# Altium schematic symbol library YL-LPC4350-CORE-V1.0 _Library.SchLib: 156 symbols (part 3 of 10)
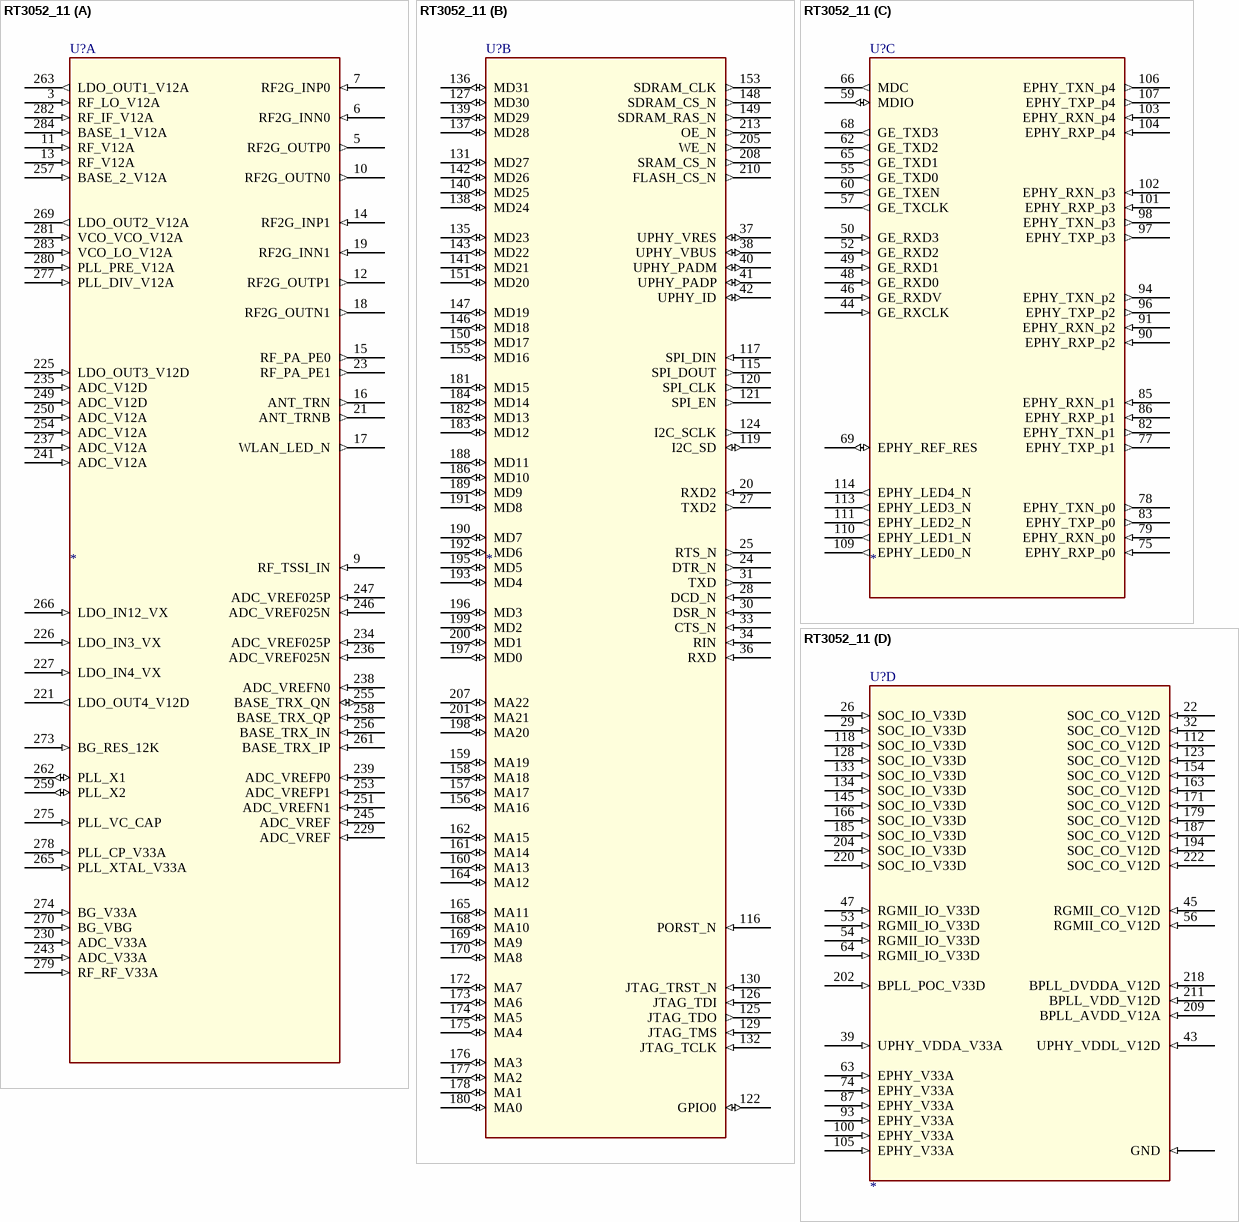
[diagram p152: symbol RT3052_11]

## RT3052_11
designator U?
Altium-Right: 180; Altium-Bottom: 670; Altium-Right1: 160; Altium-Bottom1: 720; Altium-Right2: 170; Altium-Bottom2: 360; Altium-Right3: 200; Altium-Bottom3: 330
footprint QFN285
part A pins: 3 RF_LO_V12A (in), 5 RF2G_OUTP0 (out), 6 RF2G_INN0 (in), 7 RF2G_INP0 (in), 9 RF_TSSI_IN (in), 10 RF2G_OUTN0 (out), 11 RF_V12A (in), 12 RF2G_OUTP1 (out), 13 RF_V12A (in), 14 RF2G_INP1 (in), 15 RF_PA_PE0 (out), 16 ANT_TRN (out), 17 WLAN_LED_N (out), 18 RF2G_OUTN1 (out), 19 RF2G_INN1 (in), 21 ANT_TRNB (out), 23 RF_PA_PE1 (out), 221 LDO_OUT4_V12D (out), 225 LDO_OUT3_V12D (in), 226 LDO_IN3_VX (in), 227 LDO_IN4_VX (in), 229 ADC_VREF (in), 230 ADC_V33A (in), 234 ADC_VREF025P (in), 235 ADC_V12D (in), 236 ADC_VREF025N (in), 237 ADC_V12A (in), 238 ADC_VREFN0 (in), 239 ADC_VREFP0 (in), 241 ADC_V12A (in), 243 ADC_V33A (in), 245 ADC_VREF (in), 246 ADC_VREF025N (in), 247 ADC_VREF025P (in), 249 ADC_V12D (in), 250 ADC_V12A (in), 251 ADC_VREFN1 (in), 253 ADC_VREFP1 (in), 254 ADC_V12A (in), 255 BASE_TRX_QN (io), 256 BASE_TRX_IN (in), 257 BASE_2_V12A (in), 258 BASE_TRX_QP (in), 259 PLL_X2 (io), 261 BASE_TRX_IP (in), 262 PLL_X1 (io), 263 LDO_OUT1_V12A (out), 265 PLL_XTAL_V33A (in), 266 LDO_IN12_VX (in), 269 LDO_OUT2_V12A (out), 270 BG_VBG (in), 273 BG_RES_12K (in), 274 BG_V33A (in), 275 PLL_VC_CAP (in), 277 PLL_DIV_V12A (in), 278 PLL_CP_V33A (in), 279 RF_RF_V33A (in), 280 PLL_PRE_V12A (in), 281 VCO_VCO_V12A (in), 282 RF_IF_V12A (in), 283 VCO_LO_V12A (in), 284 BASE_1_V12A (in)
part B pins: 20 RXD2 (in), 24 DTR_N (out), 25 RTS_N (out), 27 TXD2 (out), 28 DCD_N (in), 30 DSR_N (in), 31 TXD (out), 33 CTS_N (in), 34 RIN (in), 36 RXD (in), 37 UPHY_VRES (io), 38 UPHY_VBUS (io), 40 UPHY_PADM (io), 41 UPHY_PADP (io), 42 UPHY_ID (io), 115 SPI_DOUT (out), 116 PORST_N (in), 117 SPI_DIN (in), 119 I2C_SD (io), 120 SPI_CLK (out), 121 SPI_EN (out), 122 GPIO0 (io), 124 I2C_SCLK (out), 125 JTAG_TDO (out), 126 JTAG_TDI (in), 127 MD30 (io), 129 JTAG_TMS (in), 130 JTAG_TRST_N (in), 131 MD27 (io), 132 JTAG_TCLK (in), 135 MD23 (io), 136 MD31 (io), 137 MD28 (io), 138 MD24 (io), 139 MD29 (io), 140 MD25 (io), 141 MD21 (io), 142 MD26 (io), 143 MD22 (io), 146 MD18 (io), 147 MD19 (io), 148 SDRAM_CS_N (out), 149 SDRAM_RAS_N (out), 150 MD17 (io), 151 MD20 (io), 153 SDRAM_CLK (out), 155 MD16 (io), 156 MA16 (io), 157 MA17 (io), 158 MA18 (io), 159 MA19 (io), 160 MA13 (io), 161 MA14 (io), 162 MA15 (io), 164 MA12 (io), 165 MA11 (io), 168 MA10 (io), 169 MA9 (io), 170 MA8 (io), 172 MA7 (io), 173 MA6 (io), 174 MA5 (io), 175 MA4 (io), 176 MA3 (io), 177 MA2 (io), 178 MA1 (io), 180 MA0 (io), 181 MD15 (io), 182 MD13 (io), 183 MD12 (io), 184 MD14 (io), 186 MD10 (io), 188 MD11 (io), 189 MD9 (io), 190 MD7 (io), 191 MD8 (io), 192 MD6 (io), 193 MD4 (io), 195 MD5 (io), 196 MD3 (io), 197 MD0 (io), 198 MA20 (io), 199 MD2 (io), 200 MD1 (io), 201 MA21 (io), 205 WE_N (out), 207 MA22 (io), 208 SRAM_CS_N (out), 210 FLASH_CS_N (out), 213 OE_N (out)
part C pins: 44 GE_RXCLK (in), 46 GE_RXDV (in), 48 GE_RXD0 (in), 49 GE_RXD1 (in), 50 GE_RXD3 (in), 52 GE_RXD2 (in), 55 GE_TXD0 (out), 57 GE_TXCLK (out), 59 MDIO (io), 60 GE_TXEN (out), 62 GE_TXD2 (out), 65 GE_TXD1 (out), 66 MDC (out), 68 GE_TXD3 (out), 69 EPHY_REF_RES (io), 75 EPHY_RXP_p0 (in), 77 EPHY_TXP_p1 (out), 78 EPHY_TXN_p0 (out), 79 EPHY_RXN_p0 (in), 82 EPHY_TXN_p1 (out), 83 EPHY_TXP_p0 (out), 85 EPHY_RXN_p1 (in), 86 EPHY_RXP_p1 (in), 90 EPHY_RXP_p2 (in), 91 EPHY_RXN_p2 (in), 94 EPHY_TXN_p2 (out), 96 EPHY_TXP_p2 (out), 97 EPHY_TXP_p3 (out), 98 EPHY_TXN_p3 (out), 101 EPHY_RXP_p3 (in), 102 EPHY_RXN_p3 (in), 103 EPHY_RXN_p4 (in), 104 EPHY_RXP_p4 (in), 106 EPHY_TXN_p4 (out), 107 EPHY_TXP_p4 (out), 109 EPHY_LED0_N (out), 110 EPHY_LED1_N (out), 111 EPHY_LED2_N (out), 113 EPHY_LED3_N (out), 114 EPHY_LED4_N (out)
part D pins: 22 SOC_CO_V12D (in), 26 SOC_IO_V33D (in), 29 SOC_IO_V33D (in), 32 SOC_CO_V12D (in), 39 UPHY_VDDA_V33A (in), 43 UPHY_VDDL_V12D (in), 45 RGMII_CO_V12D (in), 47 RGMII_IO_V33D (in), 53 RGMII_IO_V33D (in), 54 RGMII_IO_V33D (in), 56 RGMII_CO_V12D (in), 63 EPHY_V33A (in), 64 RGMII_IO_V33D (in), 74 EPHY_V33A (in), 87 EPHY_V33A (in), 93 EPHY_V33A (in), 100 EPHY_V33A (in), 105 EPHY_V33A (in), 112 SOC_CO_V12D (in), 118 SOC_IO_V33D (in), 123 SOC_CO_V12D (in), 128 SOC_IO_V33D (in), 133 SOC_IO_V33D (in), 134 SOC_IO_V33D (in), 145 SOC_IO_V33D (in), 154 SOC_CO_V12D (in), 163 SOC_CO_V12D (in), 166 SOC_IO_V33D (in), 171 SOC_CO_V12D (in), 179 SOC_CO_V12D (in), 185 SOC_IO_V33D (in), 187 SOC_CO_V12D (in), 194 SOC_CO_V12D (in), 202 BPLL_POC_V33D (in), 204 SOC_IO_V33D (in), 209 BPLL_AVDD_V12A (in), 211 BPLL_VDD_V12D (in), 218 BPLL_DVDDA_V12D (in), 220 SOC_IO_V33D (in), 222 SOC_CO_V12D (in), GND (in)

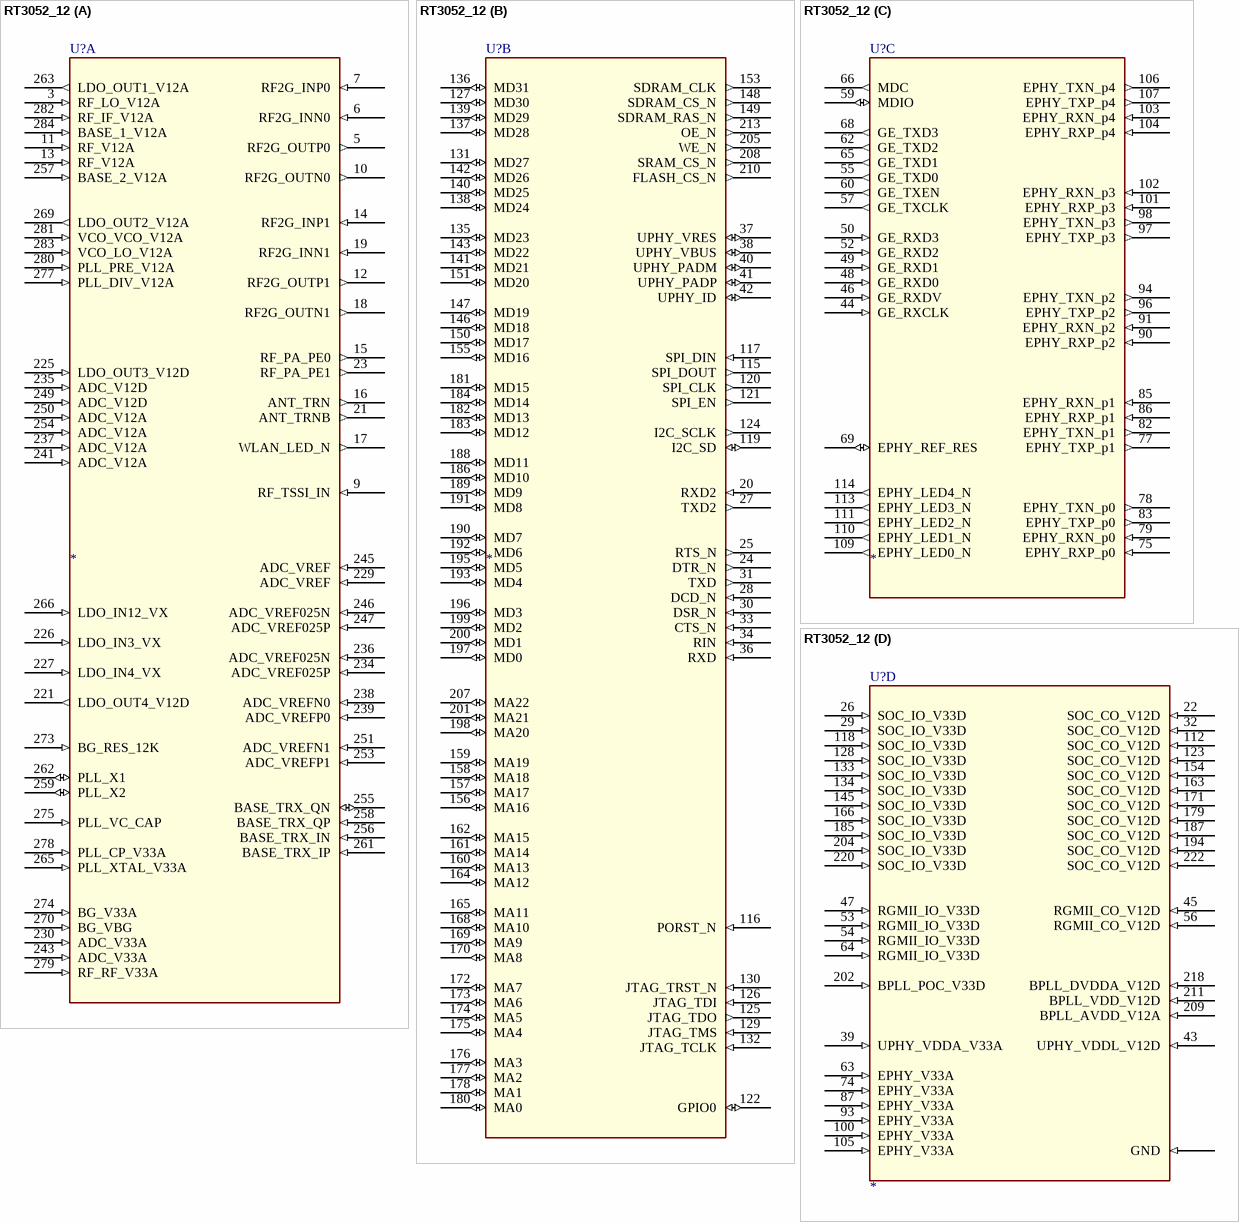
[diagram p20: symbol RT3052_12]

## RT3052_12
designator U?
Altium-Right: 180; Altium-Bottom: 630; Altium-Right1: 160; Altium-Bottom1: 720; Altium-Right2: 170; Altium-Bottom2: 360; Altium-Right3: 200; Altium-Bottom3: 330
footprint QFN285
part A pins: 3 RF_LO_V12A (in), 5 RF2G_OUTP0 (out), 6 RF2G_INN0 (in), 7 RF2G_INP0 (in), 9 RF_TSSI_IN (in), 10 RF2G_OUTN0 (out), 11 RF_V12A (in), 12 RF2G_OUTP1 (out), 13 RF_V12A (in), 14 RF2G_INP1 (in), 15 RF_PA_PE0 (out), 16 ANT_TRN (out), 17 WLAN_LED_N (out), 18 RF2G_OUTN1 (out), 19 RF2G_INN1 (in), 21 ANT_TRNB (out), 23 RF_PA_PE1 (out), 221 LDO_OUT4_V12D (out), 225 LDO_OUT3_V12D (in), 226 LDO_IN3_VX (in), 227 LDO_IN4_VX (in), 229 ADC_VREF (in), 230 ADC_V33A (in), 234 ADC_VREF025P (in), 235 ADC_V12D (in), 236 ADC_VREF025N (in), 237 ADC_V12A (in), 238 ADC_VREFN0 (in), 239 ADC_VREFP0 (in), 241 ADC_V12A (in), 243 ADC_V33A (in), 245 ADC_VREF (in), 246 ADC_VREF025N (in), 247 ADC_VREF025P (in), 249 ADC_V12D (in), 250 ADC_V12A (in), 251 ADC_VREFN1 (in), 253 ADC_VREFP1 (in), 254 ADC_V12A (in), 255 BASE_TRX_QN (io), 256 BASE_TRX_IN (in), 257 BASE_2_V12A (in), 258 BASE_TRX_QP (in), 259 PLL_X2 (io), 261 BASE_TRX_IP (in), 262 PLL_X1 (io), 263 LDO_OUT1_V12A (out), 265 PLL_XTAL_V33A (in), 266 LDO_IN12_VX (in), 269 LDO_OUT2_V12A (out), 270 BG_VBG (in), 273 BG_RES_12K (in), 274 BG_V33A (in), 275 PLL_VC_CAP (in), 277 PLL_DIV_V12A (in), 278 PLL_CP_V33A (in), 279 RF_RF_V33A (in), 280 PLL_PRE_V12A (in), 281 VCO_VCO_V12A (in), 282 RF_IF_V12A (in), 283 VCO_LO_V12A (in), 284 BASE_1_V12A (in)
part B pins: 20 RXD2 (in), 24 DTR_N (out), 25 RTS_N (out), 27 TXD2 (out), 28 DCD_N (in), 30 DSR_N (in), 31 TXD (out), 33 CTS_N (in), 34 RIN (in), 36 RXD (in), 37 UPHY_VRES (io), 38 UPHY_VBUS (io), 40 UPHY_PADM (io), 41 UPHY_PADP (io), 42 UPHY_ID (io), 115 SPI_DOUT (out), 116 PORST_N (in), 117 SPI_DIN (in), 119 I2C_SD (io), 120 SPI_CLK (out), 121 SPI_EN (out), 122 GPIO0 (io), 124 I2C_SCLK (out), 125 JTAG_TDO (out), 126 JTAG_TDI (in), 127 MD30 (io), 129 JTAG_TMS (in), 130 JTAG_TRST_N (in), 131 MD27 (io), 132 JTAG_TCLK (in), 135 MD23 (io), 136 MD31 (io), 137 MD28 (io), 138 MD24 (io), 139 MD29 (io), 140 MD25 (io), 141 MD21 (io), 142 MD26 (io), 143 MD22 (io), 146 MD18 (io), 147 MD19 (io), 148 SDRAM_CS_N (out), 149 SDRAM_RAS_N (out), 150 MD17 (io), 151 MD20 (io), 153 SDRAM_CLK (out), 155 MD16 (io), 156 MA16 (io), 157 MA17 (io), 158 MA18 (io), 159 MA19 (io), 160 MA13 (io), 161 MA14 (io), 162 MA15 (io), 164 MA12 (io), 165 MA11 (io), 168 MA10 (io), 169 MA9 (io), 170 MA8 (io), 172 MA7 (io), 173 MA6 (io), 174 MA5 (io), 175 MA4 (io), 176 MA3 (io), 177 MA2 (io), 178 MA1 (io), 180 MA0 (io), 181 MD15 (io), 182 MD13 (io), 183 MD12 (io), 184 MD14 (io), 186 MD10 (io), 188 MD11 (io), 189 MD9 (io), 190 MD7 (io), 191 MD8 (io), 192 MD6 (io), 193 MD4 (io), 195 MD5 (io), 196 MD3 (io), 197 MD0 (io), 198 MA20 (io), 199 MD2 (io), 200 MD1 (io), 201 MA21 (io), 205 WE_N (out), 207 MA22 (io), 208 SRAM_CS_N (out), 210 FLASH_CS_N (out), 213 OE_N (out)
part C pins: 44 GE_RXCLK (in), 46 GE_RXDV (in), 48 GE_RXD0 (in), 49 GE_RXD1 (in), 50 GE_RXD3 (in), 52 GE_RXD2 (in), 55 GE_TXD0 (out), 57 GE_TXCLK (out), 59 MDIO (io), 60 GE_TXEN (out), 62 GE_TXD2 (out), 65 GE_TXD1 (out), 66 MDC (out), 68 GE_TXD3 (out), 69 EPHY_REF_RES (io), 75 EPHY_RXP_p0 (in), 77 EPHY_TXP_p1 (out), 78 EPHY_TXN_p0 (out), 79 EPHY_RXN_p0 (in), 82 EPHY_TXN_p1 (out), 83 EPHY_TXP_p0 (out), 85 EPHY_RXN_p1 (in), 86 EPHY_RXP_p1 (in), 90 EPHY_RXP_p2 (in), 91 EPHY_RXN_p2 (in), 94 EPHY_TXN_p2 (out), 96 EPHY_TXP_p2 (out), 97 EPHY_TXP_p3 (out), 98 EPHY_TXN_p3 (out), 101 EPHY_RXP_p3 (in), 102 EPHY_RXN_p3 (in), 103 EPHY_RXN_p4 (in), 104 EPHY_RXP_p4 (in), 106 EPHY_TXN_p4 (out), 107 EPHY_TXP_p4 (out), 109 EPHY_LED0_N (out), 110 EPHY_LED1_N (out), 111 EPHY_LED2_N (out), 113 EPHY_LED3_N (out), 114 EPHY_LED4_N (out)
part D pins: 22 SOC_CO_V12D (in), 26 SOC_IO_V33D (in), 29 SOC_IO_V33D (in), 32 SOC_CO_V12D (in), 39 UPHY_VDDA_V33A (in), 43 UPHY_VDDL_V12D (in), 45 RGMII_CO_V12D (in), 47 RGMII_IO_V33D (in), 53 RGMII_IO_V33D (in), 54 RGMII_IO_V33D (in), 56 RGMII_CO_V12D (in), 63 EPHY_V33A (in), 64 RGMII_IO_V33D (in), 74 EPHY_V33A (in), 87 EPHY_V33A (in), 93 EPHY_V33A (in), 100 EPHY_V33A (in), 105 EPHY_V33A (in), 112 SOC_CO_V12D (in), 118 SOC_IO_V33D (in), 123 SOC_CO_V12D (in), 128 SOC_IO_V33D (in), 133 SOC_IO_V33D (in), 134 SOC_IO_V33D (in), 145 SOC_IO_V33D (in), 154 SOC_CO_V12D (in), 163 SOC_CO_V12D (in), 166 SOC_IO_V33D (in), 171 SOC_CO_V12D (in), 179 SOC_CO_V12D (in), 185 SOC_IO_V33D (in), 187 SOC_CO_V12D (in), 194 SOC_CO_V12D (in), 202 BPLL_POC_V33D (in), 204 SOC_IO_V33D (in), 209 BPLL_AVDD_V12A (in), 211 BPLL_VDD_V12D (in), 218 BPLL_DVDDA_V12D (in), 220 SOC_IO_V33D (in), 222 SOC_CO_V12D (in), GND (in)

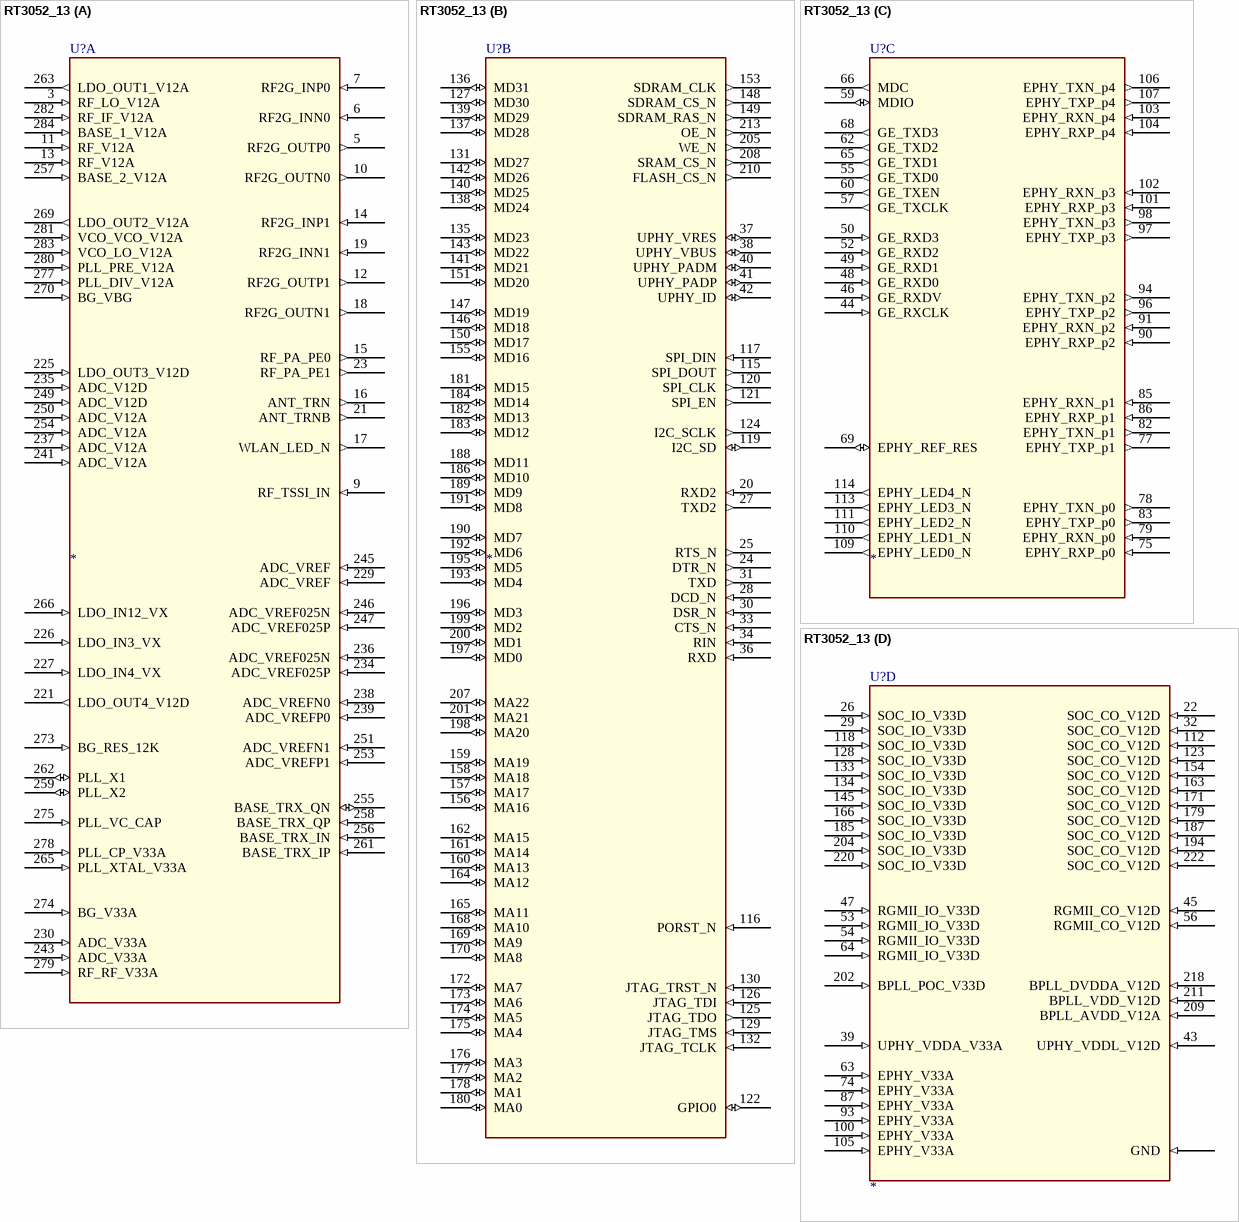
[diagram p21: symbol RT3052_13]

## RT3052_13
designator U?
Altium-Right: 180; Altium-Bottom: 630; Altium-Right1: 160; Altium-Bottom1: 720; Altium-Right2: 170; Altium-Bottom2: 360; Altium-Right3: 200; Altium-Bottom3: 330
footprint QFN285
part A pins: 3 RF_LO_V12A (in), 5 RF2G_OUTP0 (out), 6 RF2G_INN0 (in), 7 RF2G_INP0 (in), 9 RF_TSSI_IN (in), 10 RF2G_OUTN0 (out), 11 RF_V12A (in), 12 RF2G_OUTP1 (out), 13 RF_V12A (in), 14 RF2G_INP1 (in), 15 RF_PA_PE0 (out), 16 ANT_TRN (out), 17 WLAN_LED_N (out), 18 RF2G_OUTN1 (out), 19 RF2G_INN1 (in), 21 ANT_TRNB (out), 23 RF_PA_PE1 (out), 221 LDO_OUT4_V12D (out), 225 LDO_OUT3_V12D (in), 226 LDO_IN3_VX (in), 227 LDO_IN4_VX (in), 229 ADC_VREF (in), 230 ADC_V33A (in), 234 ADC_VREF025P (in), 235 ADC_V12D (in), 236 ADC_VREF025N (in), 237 ADC_V12A (in), 238 ADC_VREFN0 (in), 239 ADC_VREFP0 (in), 241 ADC_V12A (in), 243 ADC_V33A (in), 245 ADC_VREF (in), 246 ADC_VREF025N (in), 247 ADC_VREF025P (in), 249 ADC_V12D (in), 250 ADC_V12A (in), 251 ADC_VREFN1 (in), 253 ADC_VREFP1 (in), 254 ADC_V12A (in), 255 BASE_TRX_QN (io), 256 BASE_TRX_IN (in), 257 BASE_2_V12A (in), 258 BASE_TRX_QP (in), 259 PLL_X2 (io), 261 BASE_TRX_IP (in), 262 PLL_X1 (io), 263 LDO_OUT1_V12A (out), 265 PLL_XTAL_V33A (in), 266 LDO_IN12_VX (in), 269 LDO_OUT2_V12A (out), 270 BG_VBG (in), 273 BG_RES_12K (in), 274 BG_V33A (in), 275 PLL_VC_CAP (in), 277 PLL_DIV_V12A (in), 278 PLL_CP_V33A (in), 279 RF_RF_V33A (in), 280 PLL_PRE_V12A (in), 281 VCO_VCO_V12A (in), 282 RF_IF_V12A (in), 283 VCO_LO_V12A (in), 284 BASE_1_V12A (in)
part B pins: 20 RXD2 (in), 24 DTR_N (out), 25 RTS_N (out), 27 TXD2 (out), 28 DCD_N (in), 30 DSR_N (in), 31 TXD (out), 33 CTS_N (in), 34 RIN (in), 36 RXD (in), 37 UPHY_VRES (io), 38 UPHY_VBUS (io), 40 UPHY_PADM (io), 41 UPHY_PADP (io), 42 UPHY_ID (io), 115 SPI_DOUT (out), 116 PORST_N (in), 117 SPI_DIN (in), 119 I2C_SD (io), 120 SPI_CLK (out), 121 SPI_EN (out), 122 GPIO0 (io), 124 I2C_SCLK (out), 125 JTAG_TDO (out), 126 JTAG_TDI (in), 127 MD30 (io), 129 JTAG_TMS (in), 130 JTAG_TRST_N (in), 131 MD27 (io), 132 JTAG_TCLK (in), 135 MD23 (io), 136 MD31 (io), 137 MD28 (io), 138 MD24 (io), 139 MD29 (io), 140 MD25 (io), 141 MD21 (io), 142 MD26 (io), 143 MD22 (io), 146 MD18 (io), 147 MD19 (io), 148 SDRAM_CS_N (out), 149 SDRAM_RAS_N (out), 150 MD17 (io), 151 MD20 (io), 153 SDRAM_CLK (out), 155 MD16 (io), 156 MA16 (io), 157 MA17 (io), 158 MA18 (io), 159 MA19 (io), 160 MA13 (io), 161 MA14 (io), 162 MA15 (io), 164 MA12 (io), 165 MA11 (io), 168 MA10 (io), 169 MA9 (io), 170 MA8 (io), 172 MA7 (io), 173 MA6 (io), 174 MA5 (io), 175 MA4 (io), 176 MA3 (io), 177 MA2 (io), 178 MA1 (io), 180 MA0 (io), 181 MD15 (io), 182 MD13 (io), 183 MD12 (io), 184 MD14 (io), 186 MD10 (io), 188 MD11 (io), 189 MD9 (io), 190 MD7 (io), 191 MD8 (io), 192 MD6 (io), 193 MD4 (io), 195 MD5 (io), 196 MD3 (io), 197 MD0 (io), 198 MA20 (io), 199 MD2 (io), 200 MD1 (io), 201 MA21 (io), 205 WE_N (out), 207 MA22 (io), 208 SRAM_CS_N (out), 210 FLASH_CS_N (out), 213 OE_N (out)
part C pins: 44 GE_RXCLK (in), 46 GE_RXDV (in), 48 GE_RXD0 (in), 49 GE_RXD1 (in), 50 GE_RXD3 (in), 52 GE_RXD2 (in), 55 GE_TXD0 (out), 57 GE_TXCLK (out), 59 MDIO (io), 60 GE_TXEN (out), 62 GE_TXD2 (out), 65 GE_TXD1 (out), 66 MDC (out), 68 GE_TXD3 (out), 69 EPHY_REF_RES (io), 75 EPHY_RXP_p0 (in), 77 EPHY_TXP_p1 (out), 78 EPHY_TXN_p0 (out), 79 EPHY_RXN_p0 (in), 82 EPHY_TXN_p1 (out), 83 EPHY_TXP_p0 (out), 85 EPHY_RXN_p1 (in), 86 EPHY_RXP_p1 (in), 90 EPHY_RXP_p2 (in), 91 EPHY_RXN_p2 (in), 94 EPHY_TXN_p2 (out), 96 EPHY_TXP_p2 (out), 97 EPHY_TXP_p3 (out), 98 EPHY_TXN_p3 (out), 101 EPHY_RXP_p3 (in), 102 EPHY_RXN_p3 (in), 103 EPHY_RXN_p4 (in), 104 EPHY_RXP_p4 (in), 106 EPHY_TXN_p4 (out), 107 EPHY_TXP_p4 (out), 109 EPHY_LED0_N (out), 110 EPHY_LED1_N (out), 111 EPHY_LED2_N (out), 113 EPHY_LED3_N (out), 114 EPHY_LED4_N (out)
part D pins: 22 SOC_CO_V12D (in), 26 SOC_IO_V33D (in), 29 SOC_IO_V33D (in), 32 SOC_CO_V12D (in), 39 UPHY_VDDA_V33A (in), 43 UPHY_VDDL_V12D (in), 45 RGMII_CO_V12D (in), 47 RGMII_IO_V33D (in), 53 RGMII_IO_V33D (in), 54 RGMII_IO_V33D (in), 56 RGMII_CO_V12D (in), 63 EPHY_V33A (in), 64 RGMII_IO_V33D (in), 74 EPHY_V33A (in), 87 EPHY_V33A (in), 93 EPHY_V33A (in), 100 EPHY_V33A (in), 105 EPHY_V33A (in), 112 SOC_CO_V12D (in), 118 SOC_IO_V33D (in), 123 SOC_CO_V12D (in), 128 SOC_IO_V33D (in), 133 SOC_IO_V33D (in), 134 SOC_IO_V33D (in), 145 SOC_IO_V33D (in), 154 SOC_CO_V12D (in), 163 SOC_CO_V12D (in), 166 SOC_IO_V33D (in), 171 SOC_CO_V12D (in), 179 SOC_CO_V12D (in), 185 SOC_IO_V33D (in), 187 SOC_CO_V12D (in), 194 SOC_CO_V12D (in), 202 BPLL_POC_V33D (in), 204 SOC_IO_V33D (in), 209 BPLL_AVDD_V12A (in), 211 BPLL_VDD_V12D (in), 218 BPLL_DVDDA_V12D (in), 220 SOC_IO_V33D (in), 222 SOC_CO_V12D (in), GND (in)

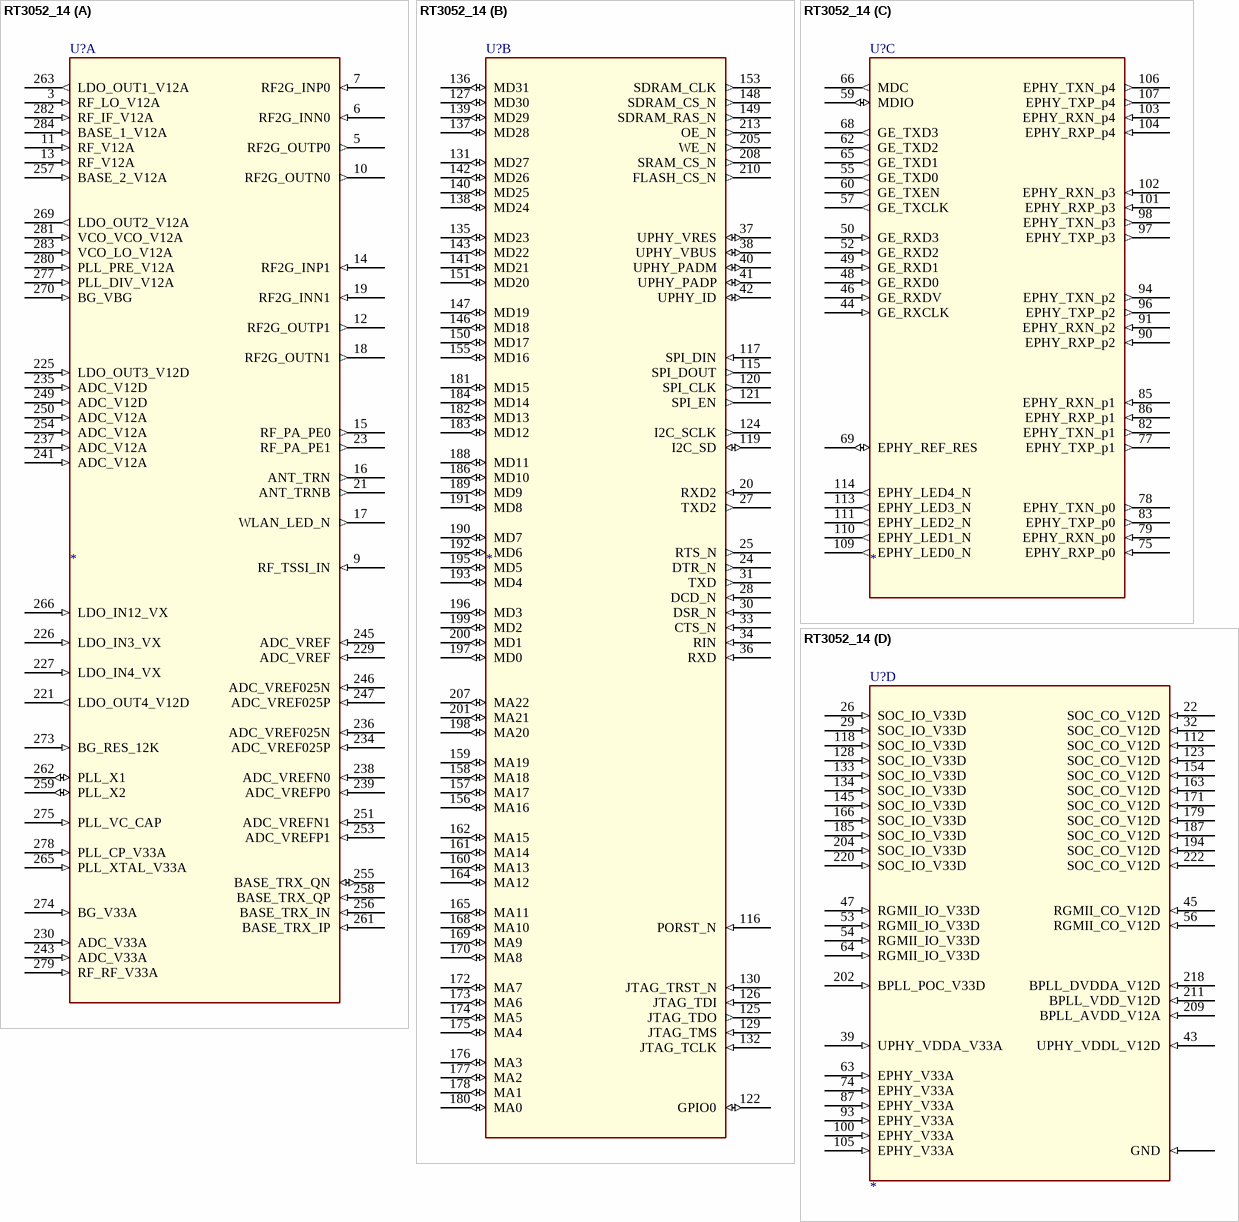
[diagram p22: symbol RT3052_14]

## RT3052_14
designator U?
Altium-Right: 180; Altium-Bottom: 630; Altium-Right1: 160; Altium-Bottom1: 720; Altium-Right2: 170; Altium-Bottom2: 360; Altium-Right3: 200; Altium-Bottom3: 330
footprint QFN285
part A pins: 3 RF_LO_V12A (in), 5 RF2G_OUTP0 (out), 6 RF2G_INN0 (in), 7 RF2G_INP0 (in), 9 RF_TSSI_IN (in), 10 RF2G_OUTN0 (out), 11 RF_V12A (in), 12 RF2G_OUTP1 (out), 13 RF_V12A (in), 14 RF2G_INP1 (in), 15 RF_PA_PE0 (out), 16 ANT_TRN (out), 17 WLAN_LED_N (out), 18 RF2G_OUTN1 (out), 19 RF2G_INN1 (in), 21 ANT_TRNB (out), 23 RF_PA_PE1 (out), 221 LDO_OUT4_V12D (out), 225 LDO_OUT3_V12D (in), 226 LDO_IN3_VX (in), 227 LDO_IN4_VX (in), 229 ADC_VREF (in), 230 ADC_V33A (in), 234 ADC_VREF025P (in), 235 ADC_V12D (in), 236 ADC_VREF025N (in), 237 ADC_V12A (in), 238 ADC_VREFN0 (in), 239 ADC_VREFP0 (in), 241 ADC_V12A (in), 243 ADC_V33A (in), 245 ADC_VREF (in), 246 ADC_VREF025N (in), 247 ADC_VREF025P (in), 249 ADC_V12D (in), 250 ADC_V12A (in), 251 ADC_VREFN1 (in), 253 ADC_VREFP1 (in), 254 ADC_V12A (in), 255 BASE_TRX_QN (io), 256 BASE_TRX_IN (in), 257 BASE_2_V12A (in), 258 BASE_TRX_QP (in), 259 PLL_X2 (io), 261 BASE_TRX_IP (in), 262 PLL_X1 (io), 263 LDO_OUT1_V12A (out), 265 PLL_XTAL_V33A (in), 266 LDO_IN12_VX (in), 269 LDO_OUT2_V12A (out), 270 BG_VBG (in), 273 BG_RES_12K (in), 274 BG_V33A (in), 275 PLL_VC_CAP (in), 277 PLL_DIV_V12A (in), 278 PLL_CP_V33A (in), 279 RF_RF_V33A (in), 280 PLL_PRE_V12A (in), 281 VCO_VCO_V12A (in), 282 RF_IF_V12A (in), 283 VCO_LO_V12A (in), 284 BASE_1_V12A (in)
part B pins: 20 RXD2 (in), 24 DTR_N (out), 25 RTS_N (out), 27 TXD2 (out), 28 DCD_N (in), 30 DSR_N (in), 31 TXD (out), 33 CTS_N (in), 34 RIN (in), 36 RXD (in), 37 UPHY_VRES (io), 38 UPHY_VBUS (io), 40 UPHY_PADM (io), 41 UPHY_PADP (io), 42 UPHY_ID (io), 115 SPI_DOUT (out), 116 PORST_N (in), 117 SPI_DIN (in), 119 I2C_SD (io), 120 SPI_CLK (out), 121 SPI_EN (out), 122 GPIO0 (io), 124 I2C_SCLK (out), 125 JTAG_TDO (out), 126 JTAG_TDI (in), 127 MD30 (io), 129 JTAG_TMS (in), 130 JTAG_TRST_N (in), 131 MD27 (io), 132 JTAG_TCLK (in), 135 MD23 (io), 136 MD31 (io), 137 MD28 (io), 138 MD24 (io), 139 MD29 (io), 140 MD25 (io), 141 MD21 (io), 142 MD26 (io), 143 MD22 (io), 146 MD18 (io), 147 MD19 (io), 148 SDRAM_CS_N (out), 149 SDRAM_RAS_N (out), 150 MD17 (io), 151 MD20 (io), 153 SDRAM_CLK (out), 155 MD16 (io), 156 MA16 (io), 157 MA17 (io), 158 MA18 (io), 159 MA19 (io), 160 MA13 (io), 161 MA14 (io), 162 MA15 (io), 164 MA12 (io), 165 MA11 (io), 168 MA10 (io), 169 MA9 (io), 170 MA8 (io), 172 MA7 (io), 173 MA6 (io), 174 MA5 (io), 175 MA4 (io), 176 MA3 (io), 177 MA2 (io), 178 MA1 (io), 180 MA0 (io), 181 MD15 (io), 182 MD13 (io), 183 MD12 (io), 184 MD14 (io), 186 MD10 (io), 188 MD11 (io), 189 MD9 (io), 190 MD7 (io), 191 MD8 (io), 192 MD6 (io), 193 MD4 (io), 195 MD5 (io), 196 MD3 (io), 197 MD0 (io), 198 MA20 (io), 199 MD2 (io), 200 MD1 (io), 201 MA21 (io), 205 WE_N (out), 207 MA22 (io), 208 SRAM_CS_N (out), 210 FLASH_CS_N (out), 213 OE_N (out)
part C pins: 44 GE_RXCLK (in), 46 GE_RXDV (in), 48 GE_RXD0 (in), 49 GE_RXD1 (in), 50 GE_RXD3 (in), 52 GE_RXD2 (in), 55 GE_TXD0 (out), 57 GE_TXCLK (out), 59 MDIO (io), 60 GE_TXEN (out), 62 GE_TXD2 (out), 65 GE_TXD1 (out), 66 MDC (out), 68 GE_TXD3 (out), 69 EPHY_REF_RES (io), 75 EPHY_RXP_p0 (in), 77 EPHY_TXP_p1 (out), 78 EPHY_TXN_p0 (out), 79 EPHY_RXN_p0 (in), 82 EPHY_TXN_p1 (out), 83 EPHY_TXP_p0 (out), 85 EPHY_RXN_p1 (in), 86 EPHY_RXP_p1 (in), 90 EPHY_RXP_p2 (in), 91 EPHY_RXN_p2 (in), 94 EPHY_TXN_p2 (out), 96 EPHY_TXP_p2 (out), 97 EPHY_TXP_p3 (out), 98 EPHY_TXN_p3 (out), 101 EPHY_RXP_p3 (in), 102 EPHY_RXN_p3 (in), 103 EPHY_RXN_p4 (in), 104 EPHY_RXP_p4 (in), 106 EPHY_TXN_p4 (out), 107 EPHY_TXP_p4 (out), 109 EPHY_LED0_N (out), 110 EPHY_LED1_N (out), 111 EPHY_LED2_N (out), 113 EPHY_LED3_N (out), 114 EPHY_LED4_N (out)
part D pins: 22 SOC_CO_V12D (in), 26 SOC_IO_V33D (in), 29 SOC_IO_V33D (in), 32 SOC_CO_V12D (in), 39 UPHY_VDDA_V33A (in), 43 UPHY_VDDL_V12D (in), 45 RGMII_CO_V12D (in), 47 RGMII_IO_V33D (in), 53 RGMII_IO_V33D (in), 54 RGMII_IO_V33D (in), 56 RGMII_CO_V12D (in), 63 EPHY_V33A (in), 64 RGMII_IO_V33D (in), 74 EPHY_V33A (in), 87 EPHY_V33A (in), 93 EPHY_V33A (in), 100 EPHY_V33A (in), 105 EPHY_V33A (in), 112 SOC_CO_V12D (in), 118 SOC_IO_V33D (in), 123 SOC_CO_V12D (in), 128 SOC_IO_V33D (in), 133 SOC_IO_V33D (in), 134 SOC_IO_V33D (in), 145 SOC_IO_V33D (in), 154 SOC_CO_V12D (in), 163 SOC_CO_V12D (in), 166 SOC_IO_V33D (in), 171 SOC_CO_V12D (in), 179 SOC_CO_V12D (in), 185 SOC_IO_V33D (in), 187 SOC_CO_V12D (in), 194 SOC_CO_V12D (in), 202 BPLL_POC_V33D (in), 204 SOC_IO_V33D (in), 209 BPLL_AVDD_V12A (in), 211 BPLL_VDD_V12D (in), 218 BPLL_DVDDA_V12D (in), 220 SOC_IO_V33D (in), 222 SOC_CO_V12D (in), GND (in)

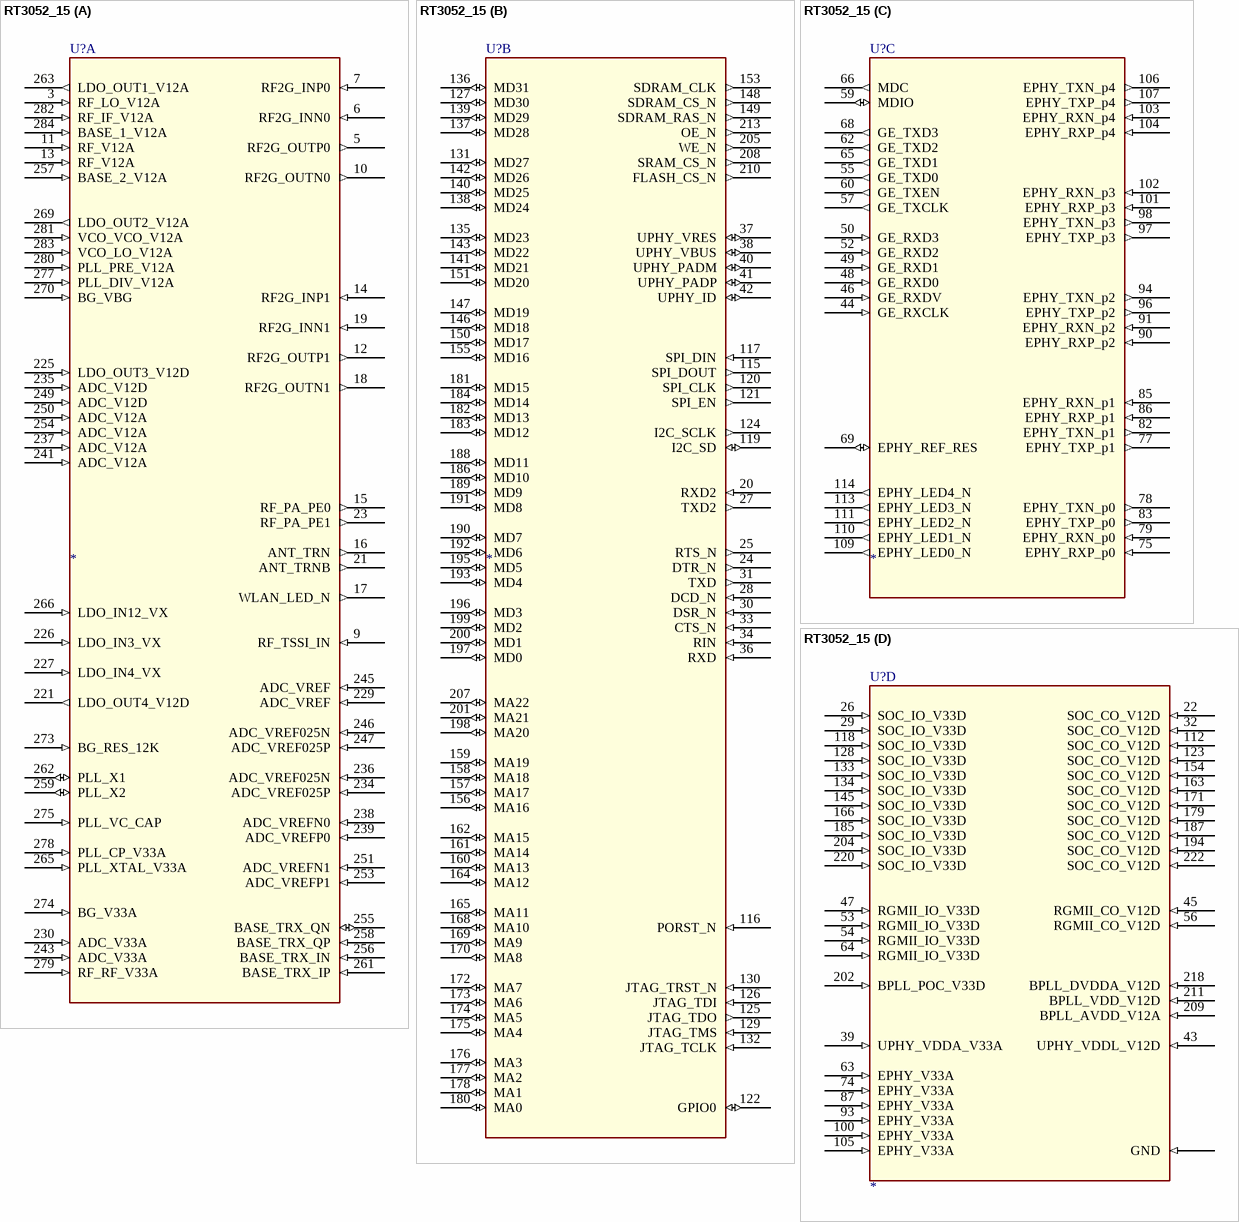
[diagram p23: symbol RT3052_15]

## RT3052_15
designator U?
Altium-Right: 180; Altium-Bottom: 630; Altium-Right1: 160; Altium-Bottom1: 720; Altium-Right2: 170; Altium-Bottom2: 360; Altium-Right3: 200; Altium-Bottom3: 330
footprint QFN285
part A pins: 3 RF_LO_V12A (in), 5 RF2G_OUTP0 (out), 6 RF2G_INN0 (in), 7 RF2G_INP0 (in), 9 RF_TSSI_IN (in), 10 RF2G_OUTN0 (out), 11 RF_V12A (in), 12 RF2G_OUTP1 (out), 13 RF_V12A (in), 14 RF2G_INP1 (in), 15 RF_PA_PE0 (out), 16 ANT_TRN (out), 17 WLAN_LED_N (out), 18 RF2G_OUTN1 (out), 19 RF2G_INN1 (in), 21 ANT_TRNB (out), 23 RF_PA_PE1 (out), 221 LDO_OUT4_V12D (out), 225 LDO_OUT3_V12D (in), 226 LDO_IN3_VX (in), 227 LDO_IN4_VX (in), 229 ADC_VREF (in), 230 ADC_V33A (in), 234 ADC_VREF025P (in), 235 ADC_V12D (in), 236 ADC_VREF025N (in), 237 ADC_V12A (in), 238 ADC_VREFN0 (in), 239 ADC_VREFP0 (in), 241 ADC_V12A (in), 243 ADC_V33A (in), 245 ADC_VREF (in), 246 ADC_VREF025N (in), 247 ADC_VREF025P (in), 249 ADC_V12D (in), 250 ADC_V12A (in), 251 ADC_VREFN1 (in), 253 ADC_VREFP1 (in), 254 ADC_V12A (in), 255 BASE_TRX_QN (io), 256 BASE_TRX_IN (in), 257 BASE_2_V12A (in), 258 BASE_TRX_QP (in), 259 PLL_X2 (io), 261 BASE_TRX_IP (in), 262 PLL_X1 (io), 263 LDO_OUT1_V12A (out), 265 PLL_XTAL_V33A (in), 266 LDO_IN12_VX (in), 269 LDO_OUT2_V12A (out), 270 BG_VBG (in), 273 BG_RES_12K (in), 274 BG_V33A (in), 275 PLL_VC_CAP (in), 277 PLL_DIV_V12A (in), 278 PLL_CP_V33A (in), 279 RF_RF_V33A (in), 280 PLL_PRE_V12A (in), 281 VCO_VCO_V12A (in), 282 RF_IF_V12A (in), 283 VCO_LO_V12A (in), 284 BASE_1_V12A (in)
part B pins: 20 RXD2 (in), 24 DTR_N (out), 25 RTS_N (out), 27 TXD2 (out), 28 DCD_N (in), 30 DSR_N (in), 31 TXD (out), 33 CTS_N (in), 34 RIN (in), 36 RXD (in), 37 UPHY_VRES (io), 38 UPHY_VBUS (io), 40 UPHY_PADM (io), 41 UPHY_PADP (io), 42 UPHY_ID (io), 115 SPI_DOUT (out), 116 PORST_N (in), 117 SPI_DIN (in), 119 I2C_SD (io), 120 SPI_CLK (out), 121 SPI_EN (out), 122 GPIO0 (io), 124 I2C_SCLK (out), 125 JTAG_TDO (out), 126 JTAG_TDI (in), 127 MD30 (io), 129 JTAG_TMS (in), 130 JTAG_TRST_N (in), 131 MD27 (io), 132 JTAG_TCLK (in), 135 MD23 (io), 136 MD31 (io), 137 MD28 (io), 138 MD24 (io), 139 MD29 (io), 140 MD25 (io), 141 MD21 (io), 142 MD26 (io), 143 MD22 (io), 146 MD18 (io), 147 MD19 (io), 148 SDRAM_CS_N (out), 149 SDRAM_RAS_N (out), 150 MD17 (io), 151 MD20 (io), 153 SDRAM_CLK (out), 155 MD16 (io), 156 MA16 (io), 157 MA17 (io), 158 MA18 (io), 159 MA19 (io), 160 MA13 (io), 161 MA14 (io), 162 MA15 (io), 164 MA12 (io), 165 MA11 (io), 168 MA10 (io), 169 MA9 (io), 170 MA8 (io), 172 MA7 (io), 173 MA6 (io), 174 MA5 (io), 175 MA4 (io), 176 MA3 (io), 177 MA2 (io), 178 MA1 (io), 180 MA0 (io), 181 MD15 (io), 182 MD13 (io), 183 MD12 (io), 184 MD14 (io), 186 MD10 (io), 188 MD11 (io), 189 MD9 (io), 190 MD7 (io), 191 MD8 (io), 192 MD6 (io), 193 MD4 (io), 195 MD5 (io), 196 MD3 (io), 197 MD0 (io), 198 MA20 (io), 199 MD2 (io), 200 MD1 (io), 201 MA21 (io), 205 WE_N (out), 207 MA22 (io), 208 SRAM_CS_N (out), 210 FLASH_CS_N (out), 213 OE_N (out)
part C pins: 44 GE_RXCLK (in), 46 GE_RXDV (in), 48 GE_RXD0 (in), 49 GE_RXD1 (in), 50 GE_RXD3 (in), 52 GE_RXD2 (in), 55 GE_TXD0 (out), 57 GE_TXCLK (out), 59 MDIO (io), 60 GE_TXEN (out), 62 GE_TXD2 (out), 65 GE_TXD1 (out), 66 MDC (out), 68 GE_TXD3 (out), 69 EPHY_REF_RES (io), 75 EPHY_RXP_p0 (in), 77 EPHY_TXP_p1 (out), 78 EPHY_TXN_p0 (out), 79 EPHY_RXN_p0 (in), 82 EPHY_TXN_p1 (out), 83 EPHY_TXP_p0 (out), 85 EPHY_RXN_p1 (in), 86 EPHY_RXP_p1 (in), 90 EPHY_RXP_p2 (in), 91 EPHY_RXN_p2 (in), 94 EPHY_TXN_p2 (out), 96 EPHY_TXP_p2 (out), 97 EPHY_TXP_p3 (out), 98 EPHY_TXN_p3 (out), 101 EPHY_RXP_p3 (in), 102 EPHY_RXN_p3 (in), 103 EPHY_RXN_p4 (in), 104 EPHY_RXP_p4 (in), 106 EPHY_TXN_p4 (out), 107 EPHY_TXP_p4 (out), 109 EPHY_LED0_N (out), 110 EPHY_LED1_N (out), 111 EPHY_LED2_N (out), 113 EPHY_LED3_N (out), 114 EPHY_LED4_N (out)
part D pins: 22 SOC_CO_V12D (in), 26 SOC_IO_V33D (in), 29 SOC_IO_V33D (in), 32 SOC_CO_V12D (in), 39 UPHY_VDDA_V33A (in), 43 UPHY_VDDL_V12D (in), 45 RGMII_CO_V12D (in), 47 RGMII_IO_V33D (in), 53 RGMII_IO_V33D (in), 54 RGMII_IO_V33D (in), 56 RGMII_CO_V12D (in), 63 EPHY_V33A (in), 64 RGMII_IO_V33D (in), 74 EPHY_V33A (in), 87 EPHY_V33A (in), 93 EPHY_V33A (in), 100 EPHY_V33A (in), 105 EPHY_V33A (in), 112 SOC_CO_V12D (in), 118 SOC_IO_V33D (in), 123 SOC_CO_V12D (in), 128 SOC_IO_V33D (in), 133 SOC_IO_V33D (in), 134 SOC_IO_V33D (in), 145 SOC_IO_V33D (in), 154 SOC_CO_V12D (in), 163 SOC_CO_V12D (in), 166 SOC_IO_V33D (in), 171 SOC_CO_V12D (in), 179 SOC_CO_V12D (in), 185 SOC_IO_V33D (in), 187 SOC_CO_V12D (in), 194 SOC_CO_V12D (in), 202 BPLL_POC_V33D (in), 204 SOC_IO_V33D (in), 209 BPLL_AVDD_V12A (in), 211 BPLL_VDD_V12D (in), 218 BPLL_DVDDA_V12D (in), 220 SOC_IO_V33D (in), 222 SOC_CO_V12D (in), GND (in)

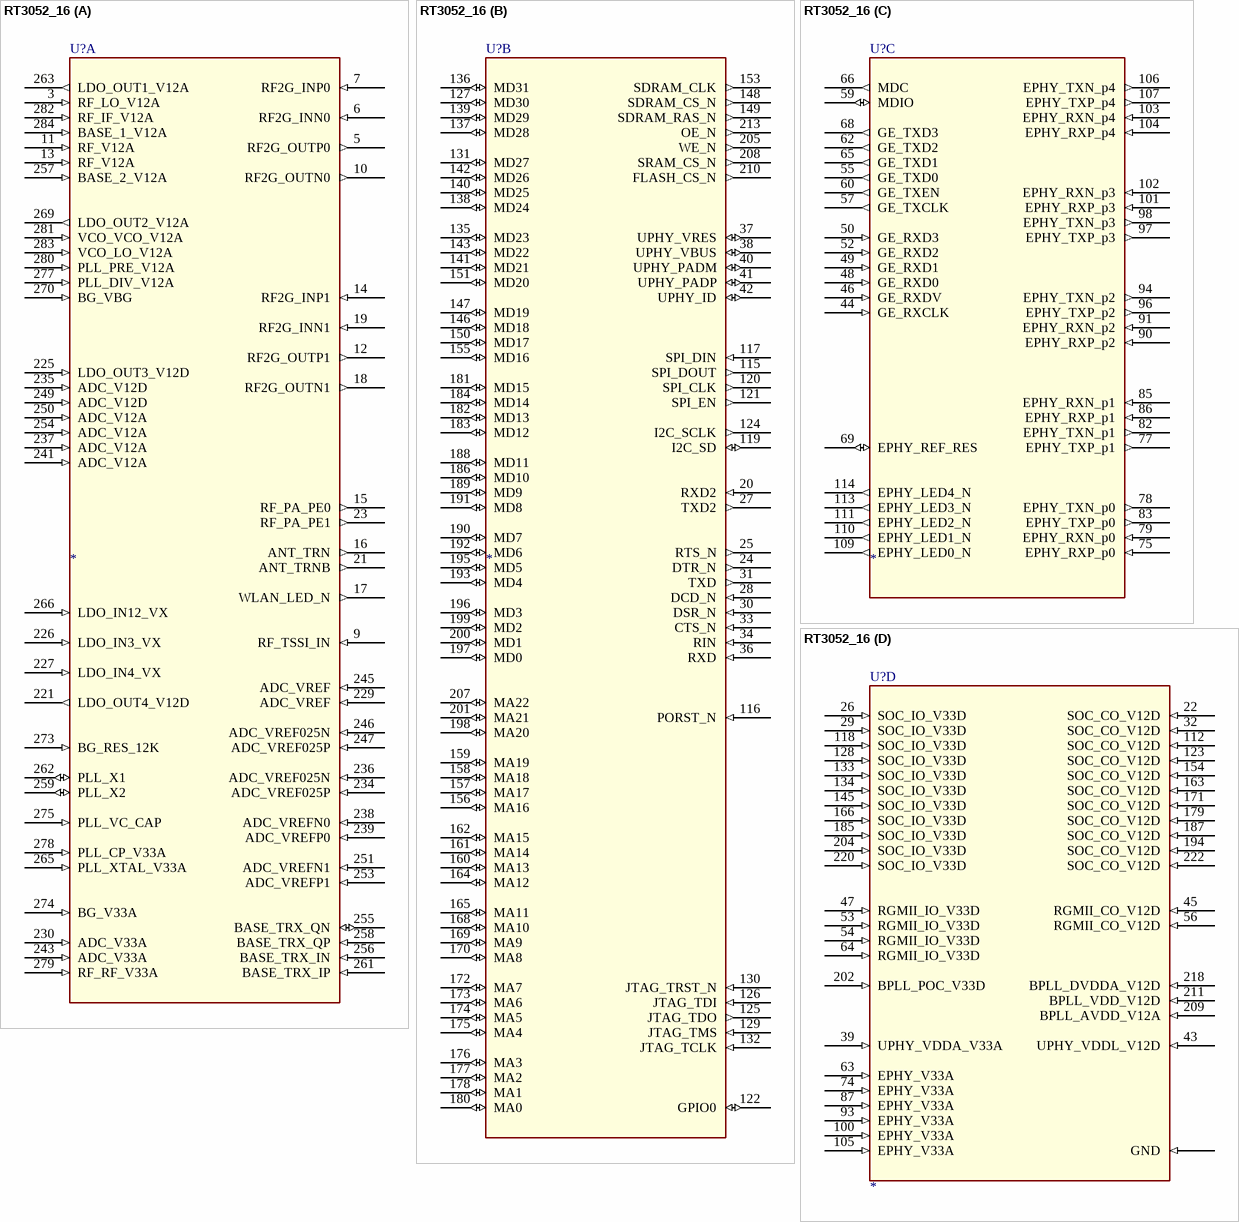
[diagram p24: symbol RT3052_16]

## RT3052_16
designator U?
Altium-Right: 160; Altium-Bottom: 720; Altium-Right1: 170; Altium-Bottom1: 360; Altium-Right2: 200; Altium-Bottom2: 330; Altium-Right3: 180; Altium-Bottom3: 630
footprint QFN285
part A pins: 3 RF_LO_V12A (in), 5 RF2G_OUTP0 (out), 6 RF2G_INN0 (in), 7 RF2G_INP0 (in), 9 RF_TSSI_IN (in), 10 RF2G_OUTN0 (out), 11 RF_V12A (in), 12 RF2G_OUTP1 (out), 13 RF_V12A (in), 14 RF2G_INP1 (in), 15 RF_PA_PE0 (out), 16 ANT_TRN (out), 17 WLAN_LED_N (out), 18 RF2G_OUTN1 (out), 19 RF2G_INN1 (in), 21 ANT_TRNB (out), 23 RF_PA_PE1 (out), 221 LDO_OUT4_V12D (out), 225 LDO_OUT3_V12D (in), 226 LDO_IN3_VX (in), 227 LDO_IN4_VX (in), 229 ADC_VREF (in), 230 ADC_V33A (in), 234 ADC_VREF025P (in), 235 ADC_V12D (in), 236 ADC_VREF025N (in), 237 ADC_V12A (in), 238 ADC_VREFN0 (in), 239 ADC_VREFP0 (in), 241 ADC_V12A (in), 243 ADC_V33A (in), 245 ADC_VREF (in), 246 ADC_VREF025N (in), 247 ADC_VREF025P (in), 249 ADC_V12D (in), 250 ADC_V12A (in), 251 ADC_VREFN1 (in), 253 ADC_VREFP1 (in), 254 ADC_V12A (in), 255 BASE_TRX_QN (io), 256 BASE_TRX_IN (in), 257 BASE_2_V12A (in), 258 BASE_TRX_QP (in), 259 PLL_X2 (io), 261 BASE_TRX_IP (in), 262 PLL_X1 (io), 263 LDO_OUT1_V12A (out), 265 PLL_XTAL_V33A (in), 266 LDO_IN12_VX (in), 269 LDO_OUT2_V12A (out), 270 BG_VBG (in), 273 BG_RES_12K (in), 274 BG_V33A (in), 275 PLL_VC_CAP (in), 277 PLL_DIV_V12A (in), 278 PLL_CP_V33A (in), 279 RF_RF_V33A (in), 280 PLL_PRE_V12A (in), 281 VCO_VCO_V12A (in), 282 RF_IF_V12A (in), 283 VCO_LO_V12A (in), 284 BASE_1_V12A (in)
part B pins: 20 RXD2 (in), 24 DTR_N (out), 25 RTS_N (out), 27 TXD2 (out), 28 DCD_N (in), 30 DSR_N (in), 31 TXD (out), 33 CTS_N (in), 34 RIN (in), 36 RXD (in), 37 UPHY_VRES (io), 38 UPHY_VBUS (io), 40 UPHY_PADM (io), 41 UPHY_PADP (io), 42 UPHY_ID (io), 115 SPI_DOUT (out), 116 PORST_N (in), 117 SPI_DIN (in), 119 I2C_SD (io), 120 SPI_CLK (out), 121 SPI_EN (out), 122 GPIO0 (io), 124 I2C_SCLK (out), 125 JTAG_TDO (out), 126 JTAG_TDI (in), 127 MD30 (io), 129 JTAG_TMS (in), 130 JTAG_TRST_N (in), 131 MD27 (io), 132 JTAG_TCLK (in), 135 MD23 (io), 136 MD31 (io), 137 MD28 (io), 138 MD24 (io), 139 MD29 (io), 140 MD25 (io), 141 MD21 (io), 142 MD26 (io), 143 MD22 (io), 146 MD18 (io), 147 MD19 (io), 148 SDRAM_CS_N (out), 149 SDRAM_RAS_N (out), 150 MD17 (io), 151 MD20 (io), 153 SDRAM_CLK (out), 155 MD16 (io), 156 MA16 (io), 157 MA17 (io), 158 MA18 (io), 159 MA19 (io), 160 MA13 (io), 161 MA14 (io), 162 MA15 (io), 164 MA12 (io), 165 MA11 (io), 168 MA10 (io), 169 MA9 (io), 170 MA8 (io), 172 MA7 (io), 173 MA6 (io), 174 MA5 (io), 175 MA4 (io), 176 MA3 (io), 177 MA2 (io), 178 MA1 (io), 180 MA0 (io), 181 MD15 (io), 182 MD13 (io), 183 MD12 (io), 184 MD14 (io), 186 MD10 (io), 188 MD11 (io), 189 MD9 (io), 190 MD7 (io), 191 MD8 (io), 192 MD6 (io), 193 MD4 (io), 195 MD5 (io), 196 MD3 (io), 197 MD0 (io), 198 MA20 (io), 199 MD2 (io), 200 MD1 (io), 201 MA21 (io), 205 WE_N (out), 207 MA22 (io), 208 SRAM_CS_N (out), 210 FLASH_CS_N (out), 213 OE_N (out)
part C pins: 44 GE_RXCLK (in), 46 GE_RXDV (in), 48 GE_RXD0 (in), 49 GE_RXD1 (in), 50 GE_RXD3 (in), 52 GE_RXD2 (in), 55 GE_TXD0 (out), 57 GE_TXCLK (out), 59 MDIO (io), 60 GE_TXEN (out), 62 GE_TXD2 (out), 65 GE_TXD1 (out), 66 MDC (out), 68 GE_TXD3 (out), 69 EPHY_REF_RES (io), 75 EPHY_RXP_p0 (in), 77 EPHY_TXP_p1 (out), 78 EPHY_TXN_p0 (out), 79 EPHY_RXN_p0 (in), 82 EPHY_TXN_p1 (out), 83 EPHY_TXP_p0 (out), 85 EPHY_RXN_p1 (in), 86 EPHY_RXP_p1 (in), 90 EPHY_RXP_p2 (in), 91 EPHY_RXN_p2 (in), 94 EPHY_TXN_p2 (out), 96 EPHY_TXP_p2 (out), 97 EPHY_TXP_p3 (out), 98 EPHY_TXN_p3 (out), 101 EPHY_RXP_p3 (in), 102 EPHY_RXN_p3 (in), 103 EPHY_RXN_p4 (in), 104 EPHY_RXP_p4 (in), 106 EPHY_TXN_p4 (out), 107 EPHY_TXP_p4 (out), 109 EPHY_LED0_N (out), 110 EPHY_LED1_N (out), 111 EPHY_LED2_N (out), 113 EPHY_LED3_N (out), 114 EPHY_LED4_N (out)
part D pins: 22 SOC_CO_V12D (in), 26 SOC_IO_V33D (in), 29 SOC_IO_V33D (in), 32 SOC_CO_V12D (in), 39 UPHY_VDDA_V33A (in), 43 UPHY_VDDL_V12D (in), 45 RGMII_CO_V12D (in), 47 RGMII_IO_V33D (in), 53 RGMII_IO_V33D (in), 54 RGMII_IO_V33D (in), 56 RGMII_CO_V12D (in), 63 EPHY_V33A (in), 64 RGMII_IO_V33D (in), 74 EPHY_V33A (in), 87 EPHY_V33A (in), 93 EPHY_V33A (in), 100 EPHY_V33A (in), 105 EPHY_V33A (in), 112 SOC_CO_V12D (in), 118 SOC_IO_V33D (in), 123 SOC_CO_V12D (in), 128 SOC_IO_V33D (in), 133 SOC_IO_V33D (in), 134 SOC_IO_V33D (in), 145 SOC_IO_V33D (in), 154 SOC_CO_V12D (in), 163 SOC_CO_V12D (in), 166 SOC_IO_V33D (in), 171 SOC_CO_V12D (in), 179 SOC_CO_V12D (in), 185 SOC_IO_V33D (in), 187 SOC_CO_V12D (in), 194 SOC_CO_V12D (in), 202 BPLL_POC_V33D (in), 204 SOC_IO_V33D (in), 209 BPLL_AVDD_V12A (in), 211 BPLL_VDD_V12D (in), 218 BPLL_DVDDA_V12D (in), 220 SOC_IO_V33D (in), 222 SOC_CO_V12D (in), GND (in)

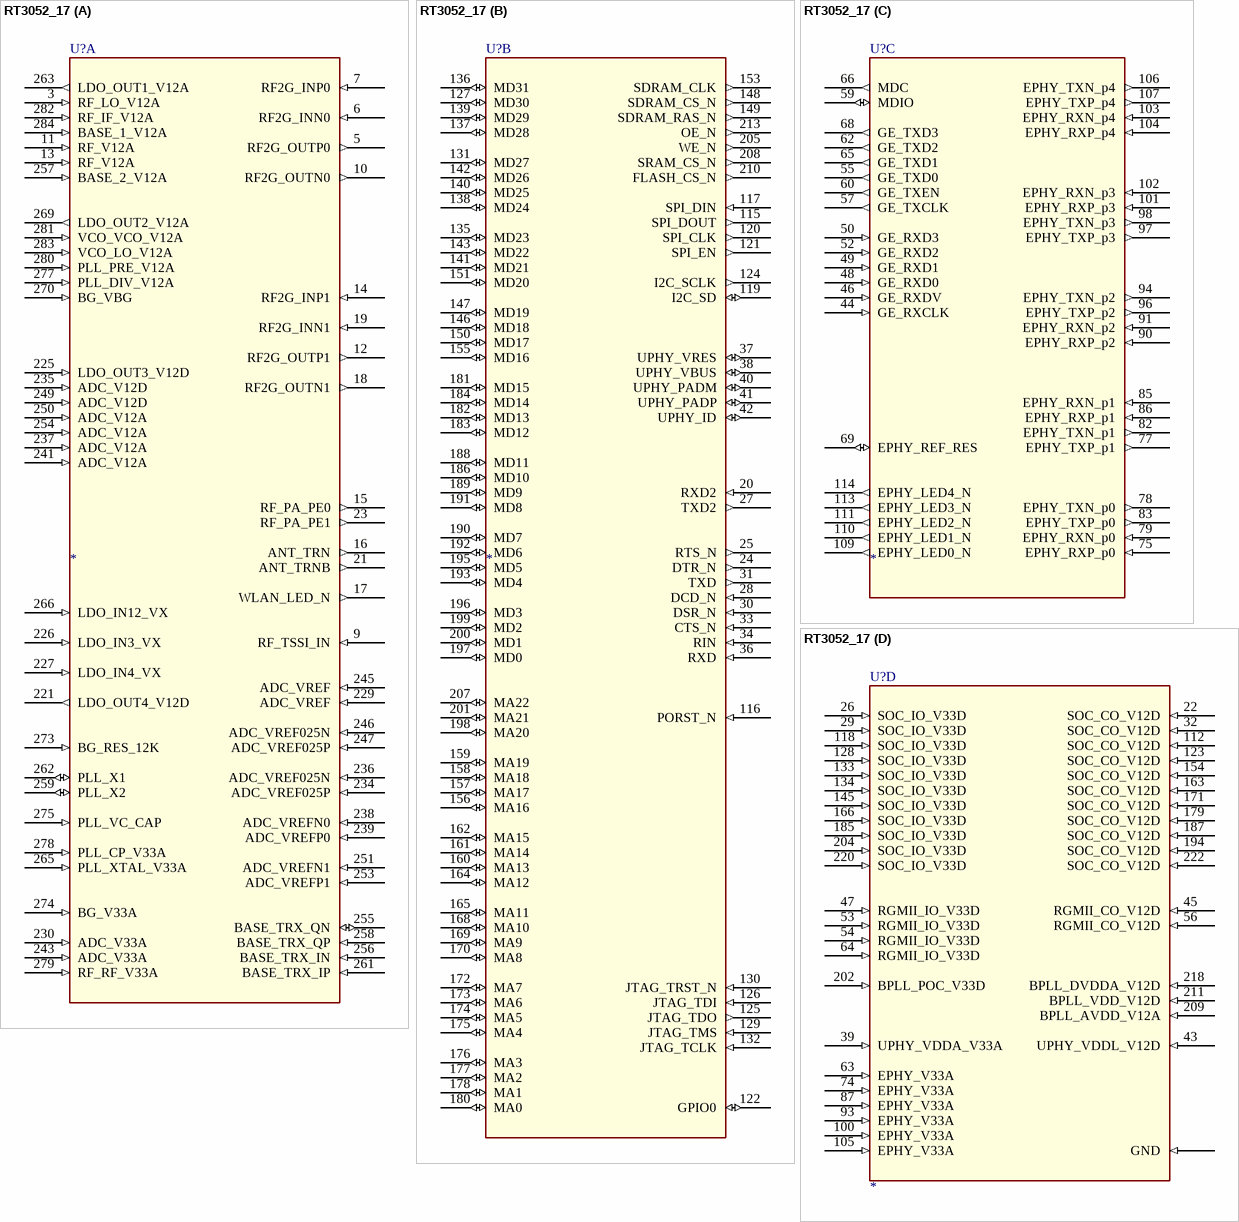
[diagram p25: symbol RT3052_17]

## RT3052_17
designator U?
Altium-Right: 170; Altium-Bottom: 360; Altium-Right1: 200; Altium-Bottom1: 330; Altium-Right2: 180; Altium-Bottom2: 630; Altium-Right3: 160; Altium-Bottom3: 720
footprint QFN285
part A pins: 3 RF_LO_V12A (in), 5 RF2G_OUTP0 (out), 6 RF2G_INN0 (in), 7 RF2G_INP0 (in), 9 RF_TSSI_IN (in), 10 RF2G_OUTN0 (out), 11 RF_V12A (in), 12 RF2G_OUTP1 (out), 13 RF_V12A (in), 14 RF2G_INP1 (in), 15 RF_PA_PE0 (out), 16 ANT_TRN (out), 17 WLAN_LED_N (out), 18 RF2G_OUTN1 (out), 19 RF2G_INN1 (in), 21 ANT_TRNB (out), 23 RF_PA_PE1 (out), 221 LDO_OUT4_V12D (out), 225 LDO_OUT3_V12D (in), 226 LDO_IN3_VX (in), 227 LDO_IN4_VX (in), 229 ADC_VREF (in), 230 ADC_V33A (in), 234 ADC_VREF025P (in), 235 ADC_V12D (in), 236 ADC_VREF025N (in), 237 ADC_V12A (in), 238 ADC_VREFN0 (in), 239 ADC_VREFP0 (in), 241 ADC_V12A (in), 243 ADC_V33A (in), 245 ADC_VREF (in), 246 ADC_VREF025N (in), 247 ADC_VREF025P (in), 249 ADC_V12D (in), 250 ADC_V12A (in), 251 ADC_VREFN1 (in), 253 ADC_VREFP1 (in), 254 ADC_V12A (in), 255 BASE_TRX_QN (io), 256 BASE_TRX_IN (in), 257 BASE_2_V12A (in), 258 BASE_TRX_QP (in), 259 PLL_X2 (io), 261 BASE_TRX_IP (in), 262 PLL_X1 (io), 263 LDO_OUT1_V12A (out), 265 PLL_XTAL_V33A (in), 266 LDO_IN12_VX (in), 269 LDO_OUT2_V12A (out), 270 BG_VBG (in), 273 BG_RES_12K (in), 274 BG_V33A (in), 275 PLL_VC_CAP (in), 277 PLL_DIV_V12A (in), 278 PLL_CP_V33A (in), 279 RF_RF_V33A (in), 280 PLL_PRE_V12A (in), 281 VCO_VCO_V12A (in), 282 RF_IF_V12A (in), 283 VCO_LO_V12A (in), 284 BASE_1_V12A (in)
part B pins: 20 RXD2 (in), 24 DTR_N (out), 25 RTS_N (out), 27 TXD2 (out), 28 DCD_N (in), 30 DSR_N (in), 31 TXD (out), 33 CTS_N (in), 34 RIN (in), 36 RXD (in), 37 UPHY_VRES (io), 38 UPHY_VBUS (io), 40 UPHY_PADM (io), 41 UPHY_PADP (io), 42 UPHY_ID (io), 115 SPI_DOUT (out), 116 PORST_N (in), 117 SPI_DIN (in), 119 I2C_SD (io), 120 SPI_CLK (out), 121 SPI_EN (out), 122 GPIO0 (io), 124 I2C_SCLK (out), 125 JTAG_TDO (out), 126 JTAG_TDI (in), 127 MD30 (io), 129 JTAG_TMS (in), 130 JTAG_TRST_N (in), 131 MD27 (io), 132 JTAG_TCLK (in), 135 MD23 (io), 136 MD31 (io), 137 MD28 (io), 138 MD24 (io), 139 MD29 (io), 140 MD25 (io), 141 MD21 (io), 142 MD26 (io), 143 MD22 (io), 146 MD18 (io), 147 MD19 (io), 148 SDRAM_CS_N (out), 149 SDRAM_RAS_N (out), 150 MD17 (io), 151 MD20 (io), 153 SDRAM_CLK (out), 155 MD16 (io), 156 MA16 (io), 157 MA17 (io), 158 MA18 (io), 159 MA19 (io), 160 MA13 (io), 161 MA14 (io), 162 MA15 (io), 164 MA12 (io), 165 MA11 (io), 168 MA10 (io), 169 MA9 (io), 170 MA8 (io), 172 MA7 (io), 173 MA6 (io), 174 MA5 (io), 175 MA4 (io), 176 MA3 (io), 177 MA2 (io), 178 MA1 (io), 180 MA0 (io), 181 MD15 (io), 182 MD13 (io), 183 MD12 (io), 184 MD14 (io), 186 MD10 (io), 188 MD11 (io), 189 MD9 (io), 190 MD7 (io), 191 MD8 (io), 192 MD6 (io), 193 MD4 (io), 195 MD5 (io), 196 MD3 (io), 197 MD0 (io), 198 MA20 (io), 199 MD2 (io), 200 MD1 (io), 201 MA21 (io), 205 WE_N (out), 207 MA22 (io), 208 SRAM_CS_N (out), 210 FLASH_CS_N (out), 213 OE_N (out)
part C pins: 44 GE_RXCLK (in), 46 GE_RXDV (in), 48 GE_RXD0 (in), 49 GE_RXD1 (in), 50 GE_RXD3 (in), 52 GE_RXD2 (in), 55 GE_TXD0 (out), 57 GE_TXCLK (out), 59 MDIO (io), 60 GE_TXEN (out), 62 GE_TXD2 (out), 65 GE_TXD1 (out), 66 MDC (out), 68 GE_TXD3 (out), 69 EPHY_REF_RES (io), 75 EPHY_RXP_p0 (in), 77 EPHY_TXP_p1 (out), 78 EPHY_TXN_p0 (out), 79 EPHY_RXN_p0 (in), 82 EPHY_TXN_p1 (out), 83 EPHY_TXP_p0 (out), 85 EPHY_RXN_p1 (in), 86 EPHY_RXP_p1 (in), 90 EPHY_RXP_p2 (in), 91 EPHY_RXN_p2 (in), 94 EPHY_TXN_p2 (out), 96 EPHY_TXP_p2 (out), 97 EPHY_TXP_p3 (out), 98 EPHY_TXN_p3 (out), 101 EPHY_RXP_p3 (in), 102 EPHY_RXN_p3 (in), 103 EPHY_RXN_p4 (in), 104 EPHY_RXP_p4 (in), 106 EPHY_TXN_p4 (out), 107 EPHY_TXP_p4 (out), 109 EPHY_LED0_N (out), 110 EPHY_LED1_N (out), 111 EPHY_LED2_N (out), 113 EPHY_LED3_N (out), 114 EPHY_LED4_N (out)
part D pins: 22 SOC_CO_V12D (in), 26 SOC_IO_V33D (in), 29 SOC_IO_V33D (in), 32 SOC_CO_V12D (in), 39 UPHY_VDDA_V33A (in), 43 UPHY_VDDL_V12D (in), 45 RGMII_CO_V12D (in), 47 RGMII_IO_V33D (in), 53 RGMII_IO_V33D (in), 54 RGMII_IO_V33D (in), 56 RGMII_CO_V12D (in), 63 EPHY_V33A (in), 64 RGMII_IO_V33D (in), 74 EPHY_V33A (in), 87 EPHY_V33A (in), 93 EPHY_V33A (in), 100 EPHY_V33A (in), 105 EPHY_V33A (in), 112 SOC_CO_V12D (in), 118 SOC_IO_V33D (in), 123 SOC_CO_V12D (in), 128 SOC_IO_V33D (in), 133 SOC_IO_V33D (in), 134 SOC_IO_V33D (in), 145 SOC_IO_V33D (in), 154 SOC_CO_V12D (in), 163 SOC_CO_V12D (in), 166 SOC_IO_V33D (in), 171 SOC_CO_V12D (in), 179 SOC_CO_V12D (in), 185 SOC_IO_V33D (in), 187 SOC_CO_V12D (in), 194 SOC_CO_V12D (in), 202 BPLL_POC_V33D (in), 204 SOC_IO_V33D (in), 209 BPLL_AVDD_V12A (in), 211 BPLL_VDD_V12D (in), 218 BPLL_DVDDA_V12D (in), 220 SOC_IO_V33D (in), 222 SOC_CO_V12D (in), GND (in)

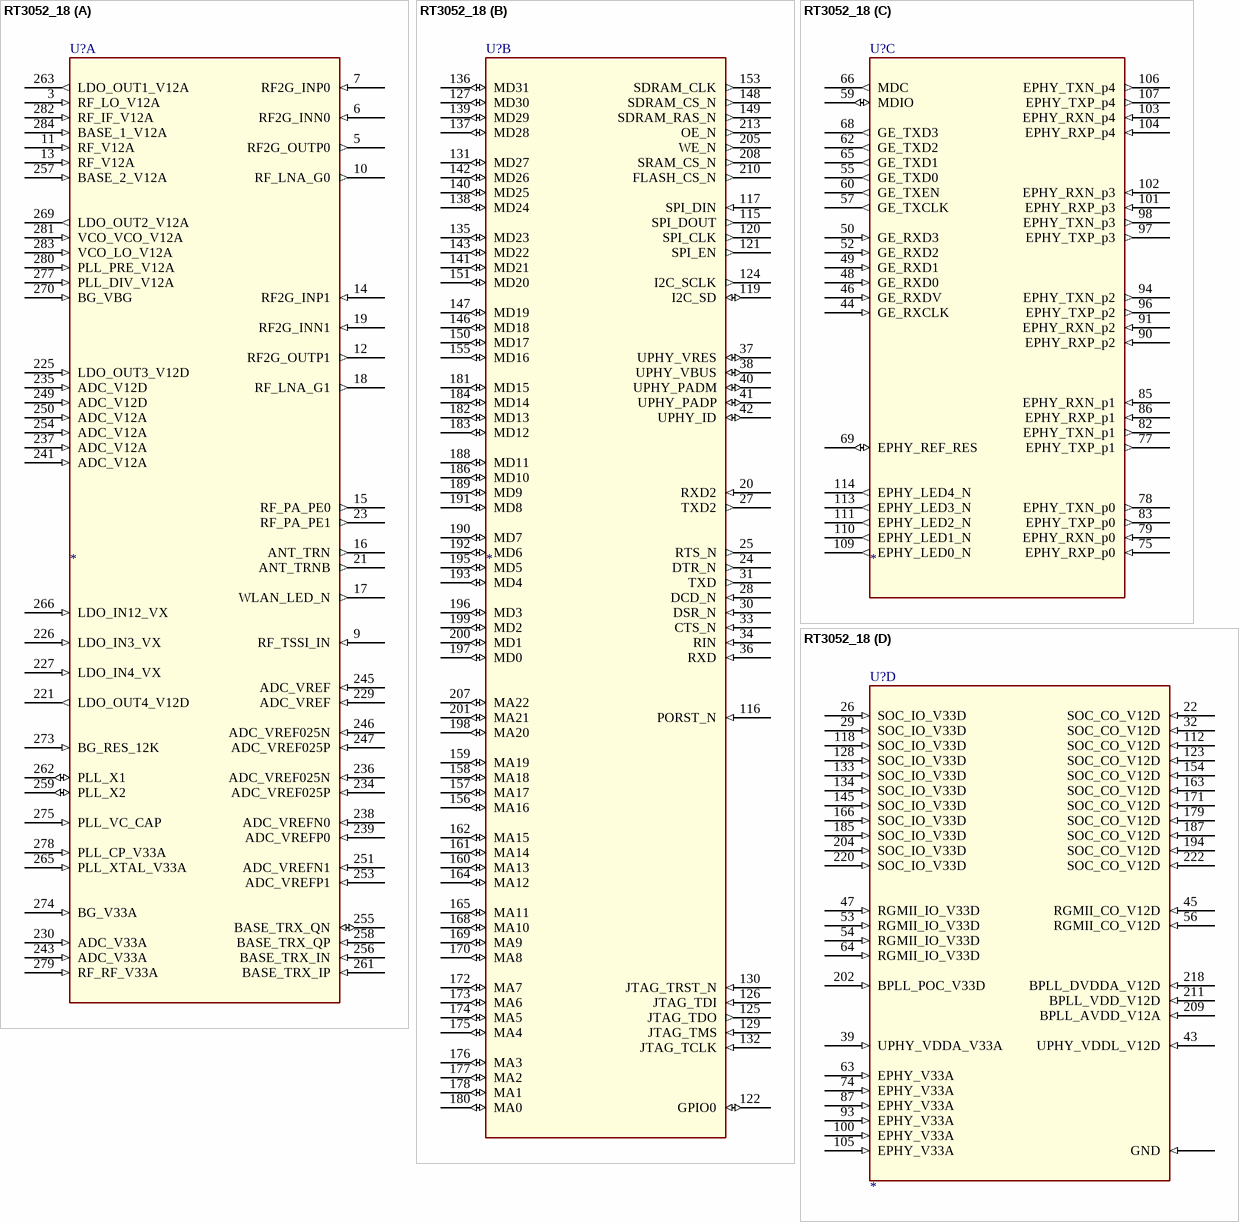
[diagram p26: symbol RT3052_18]

## RT3052_18
designator U?
Altium-Right: 200; Altium-Bottom: 330; Altium-Right1: 180; Altium-Bottom1: 630; Altium-Right2: 160; Altium-Bottom2: 720; Altium-Right3: 170; Altium-Bottom3: 360
footprint QFN285
part A pins: 3 RF_LO_V12A (in), 5 RF2G_OUTP0 (out), 6 RF2G_INN0 (in), 7 RF2G_INP0 (in), 9 RF_TSSI_IN (in), 10 RF_LNA_G0 (out), 11 RF_V12A (in), 12 RF2G_OUTP1 (out), 13 RF_V12A (in), 14 RF2G_INP1 (in), 15 RF_PA_PE0 (out), 16 ANT_TRN (out), 17 WLAN_LED_N (out), 18 RF_LNA_G1 (out), 19 RF2G_INN1 (in), 21 ANT_TRNB (out), 23 RF_PA_PE1 (out), 221 LDO_OUT4_V12D (out), 225 LDO_OUT3_V12D (in), 226 LDO_IN3_VX (in), 227 LDO_IN4_VX (in), 229 ADC_VREF (in), 230 ADC_V33A (in), 234 ADC_VREF025P (in), 235 ADC_V12D (in), 236 ADC_VREF025N (in), 237 ADC_V12A (in), 238 ADC_VREFN0 (in), 239 ADC_VREFP0 (in), 241 ADC_V12A (in), 243 ADC_V33A (in), 245 ADC_VREF (in), 246 ADC_VREF025N (in), 247 ADC_VREF025P (in), 249 ADC_V12D (in), 250 ADC_V12A (in), 251 ADC_VREFN1 (in), 253 ADC_VREFP1 (in), 254 ADC_V12A (in), 255 BASE_TRX_QN (io), 256 BASE_TRX_IN (in), 257 BASE_2_V12A (in), 258 BASE_TRX_QP (in), 259 PLL_X2 (io), 261 BASE_TRX_IP (in), 262 PLL_X1 (io), 263 LDO_OUT1_V12A (out), 265 PLL_XTAL_V33A (in), 266 LDO_IN12_VX (in), 269 LDO_OUT2_V12A (out), 270 BG_VBG (in), 273 BG_RES_12K (in), 274 BG_V33A (in), 275 PLL_VC_CAP (in), 277 PLL_DIV_V12A (in), 278 PLL_CP_V33A (in), 279 RF_RF_V33A (in), 280 PLL_PRE_V12A (in), 281 VCO_VCO_V12A (in), 282 RF_IF_V12A (in), 283 VCO_LO_V12A (in), 284 BASE_1_V12A (in)
part B pins: 20 RXD2 (in), 24 DTR_N (out), 25 RTS_N (out), 27 TXD2 (out), 28 DCD_N (in), 30 DSR_N (in), 31 TXD (out), 33 CTS_N (in), 34 RIN (in), 36 RXD (in), 37 UPHY_VRES (io), 38 UPHY_VBUS (io), 40 UPHY_PADM (io), 41 UPHY_PADP (io), 42 UPHY_ID (io), 115 SPI_DOUT (out), 116 PORST_N (in), 117 SPI_DIN (in), 119 I2C_SD (io), 120 SPI_CLK (out), 121 SPI_EN (out), 122 GPIO0 (io), 124 I2C_SCLK (out), 125 JTAG_TDO (out), 126 JTAG_TDI (in), 127 MD30 (io), 129 JTAG_TMS (in), 130 JTAG_TRST_N (in), 131 MD27 (io), 132 JTAG_TCLK (in), 135 MD23 (io), 136 MD31 (io), 137 MD28 (io), 138 MD24 (io), 139 MD29 (io), 140 MD25 (io), 141 MD21 (io), 142 MD26 (io), 143 MD22 (io), 146 MD18 (io), 147 MD19 (io), 148 SDRAM_CS_N (out), 149 SDRAM_RAS_N (out), 150 MD17 (io), 151 MD20 (io), 153 SDRAM_CLK (out), 155 MD16 (io), 156 MA16 (io), 157 MA17 (io), 158 MA18 (io), 159 MA19 (io), 160 MA13 (io), 161 MA14 (io), 162 MA15 (io), 164 MA12 (io), 165 MA11 (io), 168 MA10 (io), 169 MA9 (io), 170 MA8 (io), 172 MA7 (io), 173 MA6 (io), 174 MA5 (io), 175 MA4 (io), 176 MA3 (io), 177 MA2 (io), 178 MA1 (io), 180 MA0 (io), 181 MD15 (io), 182 MD13 (io), 183 MD12 (io), 184 MD14 (io), 186 MD10 (io), 188 MD11 (io), 189 MD9 (io), 190 MD7 (io), 191 MD8 (io), 192 MD6 (io), 193 MD4 (io), 195 MD5 (io), 196 MD3 (io), 197 MD0 (io), 198 MA20 (io), 199 MD2 (io), 200 MD1 (io), 201 MA21 (io), 205 WE_N (out), 207 MA22 (io), 208 SRAM_CS_N (out), 210 FLASH_CS_N (out), 213 OE_N (out)
part C pins: 44 GE_RXCLK (in), 46 GE_RXDV (in), 48 GE_RXD0 (in), 49 GE_RXD1 (in), 50 GE_RXD3 (in), 52 GE_RXD2 (in), 55 GE_TXD0 (out), 57 GE_TXCLK (out), 59 MDIO (io), 60 GE_TXEN (out), 62 GE_TXD2 (out), 65 GE_TXD1 (out), 66 MDC (out), 68 GE_TXD3 (out), 69 EPHY_REF_RES (io), 75 EPHY_RXP_p0 (in), 77 EPHY_TXP_p1 (out), 78 EPHY_TXN_p0 (out), 79 EPHY_RXN_p0 (in), 82 EPHY_TXN_p1 (out), 83 EPHY_TXP_p0 (out), 85 EPHY_RXN_p1 (in), 86 EPHY_RXP_p1 (in), 90 EPHY_RXP_p2 (in), 91 EPHY_RXN_p2 (in), 94 EPHY_TXN_p2 (out), 96 EPHY_TXP_p2 (out), 97 EPHY_TXP_p3 (out), 98 EPHY_TXN_p3 (out), 101 EPHY_RXP_p3 (in), 102 EPHY_RXN_p3 (in), 103 EPHY_RXN_p4 (in), 104 EPHY_RXP_p4 (in), 106 EPHY_TXN_p4 (out), 107 EPHY_TXP_p4 (out), 109 EPHY_LED0_N (out), 110 EPHY_LED1_N (out), 111 EPHY_LED2_N (out), 113 EPHY_LED3_N (out), 114 EPHY_LED4_N (out)
part D pins: 22 SOC_CO_V12D (in), 26 SOC_IO_V33D (in), 29 SOC_IO_V33D (in), 32 SOC_CO_V12D (in), 39 UPHY_VDDA_V33A (in), 43 UPHY_VDDL_V12D (in), 45 RGMII_CO_V12D (in), 47 RGMII_IO_V33D (in), 53 RGMII_IO_V33D (in), 54 RGMII_IO_V33D (in), 56 RGMII_CO_V12D (in), 63 EPHY_V33A (in), 64 RGMII_IO_V33D (in), 74 EPHY_V33A (in), 87 EPHY_V33A (in), 93 EPHY_V33A (in), 100 EPHY_V33A (in), 105 EPHY_V33A (in), 112 SOC_CO_V12D (in), 118 SOC_IO_V33D (in), 123 SOC_CO_V12D (in), 128 SOC_IO_V33D (in), 133 SOC_IO_V33D (in), 134 SOC_IO_V33D (in), 145 SOC_IO_V33D (in), 154 SOC_CO_V12D (in), 163 SOC_CO_V12D (in), 166 SOC_IO_V33D (in), 171 SOC_CO_V12D (in), 179 SOC_CO_V12D (in), 185 SOC_IO_V33D (in), 187 SOC_CO_V12D (in), 194 SOC_CO_V12D (in), 202 BPLL_POC_V33D (in), 204 SOC_IO_V33D (in), 209 BPLL_AVDD_V12A (in), 211 BPLL_VDD_V12D (in), 218 BPLL_DVDDA_V12D (in), 220 SOC_IO_V33D (in), 222 SOC_CO_V12D (in), GND (in)

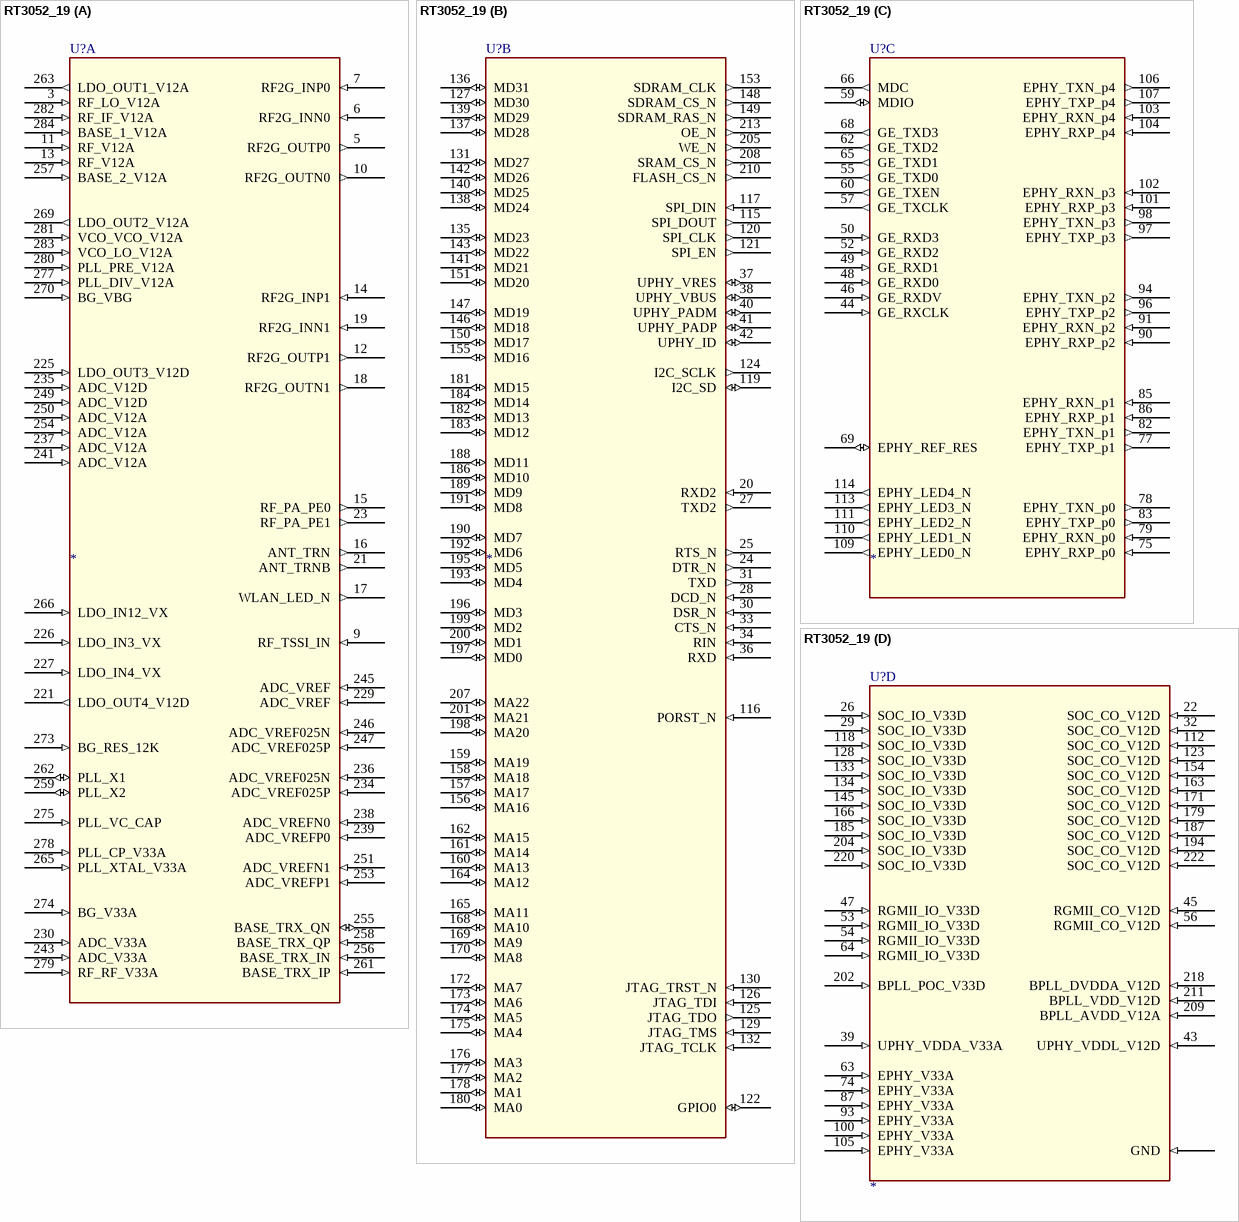
[diagram p27: symbol RT3052_19]

## RT3052_19
designator U?
Altium-Right: 180; Altium-Bottom: 630; Altium-Right1: 160; Altium-Bottom1: 720; Altium-Right2: 170; Altium-Bottom2: 360; Altium-Right3: 200; Altium-Bottom3: 330
footprint QFN285
part A pins: 3 RF_LO_V12A (in), 5 RF2G_OUTP0 (out), 6 RF2G_INN0 (in), 7 RF2G_INP0 (in), 9 RF_TSSI_IN (in), 10 RF2G_OUTN0 (out), 11 RF_V12A (in), 12 RF2G_OUTP1 (out), 13 RF_V12A (in), 14 RF2G_INP1 (in), 15 RF_PA_PE0 (out), 16 ANT_TRN (out), 17 WLAN_LED_N (out), 18 RF2G_OUTN1 (out), 19 RF2G_INN1 (in), 21 ANT_TRNB (out), 23 RF_PA_PE1 (out), 221 LDO_OUT4_V12D (out), 225 LDO_OUT3_V12D (in), 226 LDO_IN3_VX (in), 227 LDO_IN4_VX (in), 229 ADC_VREF (in), 230 ADC_V33A (in), 234 ADC_VREF025P (in), 235 ADC_V12D (in), 236 ADC_VREF025N (in), 237 ADC_V12A (in), 238 ADC_VREFN0 (in), 239 ADC_VREFP0 (in), 241 ADC_V12A (in), 243 ADC_V33A (in), 245 ADC_VREF (in), 246 ADC_VREF025N (in), 247 ADC_VREF025P (in), 249 ADC_V12D (in), 250 ADC_V12A (in), 251 ADC_VREFN1 (in), 253 ADC_VREFP1 (in), 254 ADC_V12A (in), 255 BASE_TRX_QN (io), 256 BASE_TRX_IN (in), 257 BASE_2_V12A (in), 258 BASE_TRX_QP (in), 259 PLL_X2 (io), 261 BASE_TRX_IP (in), 262 PLL_X1 (io), 263 LDO_OUT1_V12A (out), 265 PLL_XTAL_V33A (in), 266 LDO_IN12_VX (in), 269 LDO_OUT2_V12A (out), 270 BG_VBG (in), 273 BG_RES_12K (in), 274 BG_V33A (in), 275 PLL_VC_CAP (in), 277 PLL_DIV_V12A (in), 278 PLL_CP_V33A (in), 279 RF_RF_V33A (in), 280 PLL_PRE_V12A (in), 281 VCO_VCO_V12A (in), 282 RF_IF_V12A (in), 283 VCO_LO_V12A (in), 284 BASE_1_V12A (in)
part B pins: 20 RXD2 (in), 24 DTR_N (out), 25 RTS_N (out), 27 TXD2 (out), 28 DCD_N (in), 30 DSR_N (in), 31 TXD (out), 33 CTS_N (in), 34 RIN (in), 36 RXD (in), 37 UPHY_VRES (io), 38 UPHY_VBUS (io), 40 UPHY_PADM (io), 41 UPHY_PADP (io), 42 UPHY_ID (io), 115 SPI_DOUT (out), 116 PORST_N (in), 117 SPI_DIN (in), 119 I2C_SD (io), 120 SPI_CLK (out), 121 SPI_EN (out), 122 GPIO0 (io), 124 I2C_SCLK (out), 125 JTAG_TDO (out), 126 JTAG_TDI (in), 127 MD30 (io), 129 JTAG_TMS (in), 130 JTAG_TRST_N (in), 131 MD27 (io), 132 JTAG_TCLK (in), 135 MD23 (io), 136 MD31 (io), 137 MD28 (io), 138 MD24 (io), 139 MD29 (io), 140 MD25 (io), 141 MD21 (io), 142 MD26 (io), 143 MD22 (io), 146 MD18 (io), 147 MD19 (io), 148 SDRAM_CS_N (out), 149 SDRAM_RAS_N (out), 150 MD17 (io), 151 MD20 (io), 153 SDRAM_CLK (out), 155 MD16 (io), 156 MA16 (io), 157 MA17 (io), 158 MA18 (io), 159 MA19 (io), 160 MA13 (io), 161 MA14 (io), 162 MA15 (io), 164 MA12 (io), 165 MA11 (io), 168 MA10 (io), 169 MA9 (io), 170 MA8 (io), 172 MA7 (io), 173 MA6 (io), 174 MA5 (io), 175 MA4 (io), 176 MA3 (io), 177 MA2 (io), 178 MA1 (io), 180 MA0 (io), 181 MD15 (io), 182 MD13 (io), 183 MD12 (io), 184 MD14 (io), 186 MD10 (io), 188 MD11 (io), 189 MD9 (io), 190 MD7 (io), 191 MD8 (io), 192 MD6 (io), 193 MD4 (io), 195 MD5 (io), 196 MD3 (io), 197 MD0 (io), 198 MA20 (io), 199 MD2 (io), 200 MD1 (io), 201 MA21 (io), 205 WE_N (out), 207 MA22 (io), 208 SRAM_CS_N (out), 210 FLASH_CS_N (out), 213 OE_N (out)
part C pins: 44 GE_RXCLK (in), 46 GE_RXDV (in), 48 GE_RXD0 (in), 49 GE_RXD1 (in), 50 GE_RXD3 (in), 52 GE_RXD2 (in), 55 GE_TXD0 (out), 57 GE_TXCLK (out), 59 MDIO (io), 60 GE_TXEN (out), 62 GE_TXD2 (out), 65 GE_TXD1 (out), 66 MDC (out), 68 GE_TXD3 (out), 69 EPHY_REF_RES (io), 75 EPHY_RXP_p0 (in), 77 EPHY_TXP_p1 (out), 78 EPHY_TXN_p0 (out), 79 EPHY_RXN_p0 (in), 82 EPHY_TXN_p1 (out), 83 EPHY_TXP_p0 (out), 85 EPHY_RXN_p1 (in), 86 EPHY_RXP_p1 (in), 90 EPHY_RXP_p2 (in), 91 EPHY_RXN_p2 (in), 94 EPHY_TXN_p2 (out), 96 EPHY_TXP_p2 (out), 97 EPHY_TXP_p3 (out), 98 EPHY_TXN_p3 (out), 101 EPHY_RXP_p3 (in), 102 EPHY_RXN_p3 (in), 103 EPHY_RXN_p4 (in), 104 EPHY_RXP_p4 (in), 106 EPHY_TXN_p4 (out), 107 EPHY_TXP_p4 (out), 109 EPHY_LED0_N (out), 110 EPHY_LED1_N (out), 111 EPHY_LED2_N (out), 113 EPHY_LED3_N (out), 114 EPHY_LED4_N (out)
part D pins: 22 SOC_CO_V12D (in), 26 SOC_IO_V33D (in), 29 SOC_IO_V33D (in), 32 SOC_CO_V12D (in), 39 UPHY_VDDA_V33A (in), 43 UPHY_VDDL_V12D (in), 45 RGMII_CO_V12D (in), 47 RGMII_IO_V33D (in), 53 RGMII_IO_V33D (in), 54 RGMII_IO_V33D (in), 56 RGMII_CO_V12D (in), 63 EPHY_V33A (in), 64 RGMII_IO_V33D (in), 74 EPHY_V33A (in), 87 EPHY_V33A (in), 93 EPHY_V33A (in), 100 EPHY_V33A (in), 105 EPHY_V33A (in), 112 SOC_CO_V12D (in), 118 SOC_IO_V33D (in), 123 SOC_CO_V12D (in), 128 SOC_IO_V33D (in), 133 SOC_IO_V33D (in), 134 SOC_IO_V33D (in), 145 SOC_IO_V33D (in), 154 SOC_CO_V12D (in), 163 SOC_CO_V12D (in), 166 SOC_IO_V33D (in), 171 SOC_CO_V12D (in), 179 SOC_CO_V12D (in), 185 SOC_IO_V33D (in), 187 SOC_CO_V12D (in), 194 SOC_CO_V12D (in), 202 BPLL_POC_V33D (in), 204 SOC_IO_V33D (in), 209 BPLL_AVDD_V12A (in), 211 BPLL_VDD_V12D (in), 218 BPLL_DVDDA_V12D (in), 220 SOC_IO_V33D (in), 222 SOC_CO_V12D (in), GND (in)

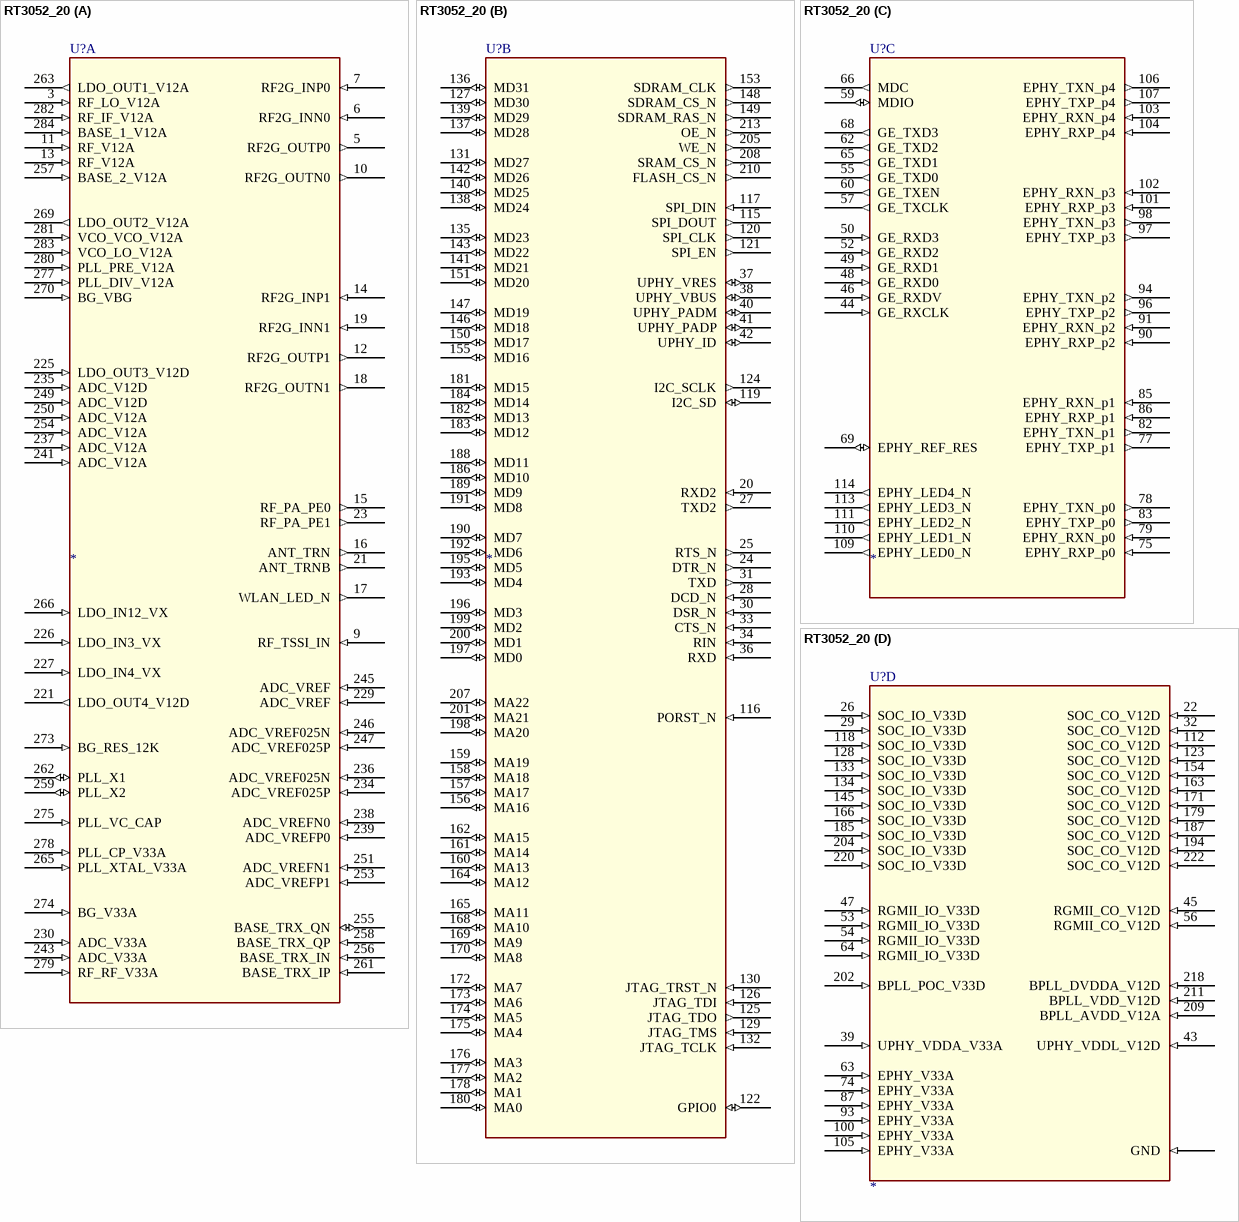
[diagram p28: symbol RT3052_20]

## RT3052_20
designator U?
Altium-Right: 180; Altium-Bottom: 630; Altium-Right1: 160; Altium-Bottom1: 720; Altium-Right2: 170; Altium-Bottom2: 360; Altium-Right3: 200; Altium-Bottom3: 330
footprint QFN285
part A pins: 3 RF_LO_V12A (in), 5 RF2G_OUTP0 (out), 6 RF2G_INN0 (in), 7 RF2G_INP0 (in), 9 RF_TSSI_IN (in), 10 RF2G_OUTN0 (out), 11 RF_V12A (in), 12 RF2G_OUTP1 (out), 13 RF_V12A (in), 14 RF2G_INP1 (in), 15 RF_PA_PE0 (out), 16 ANT_TRN (out), 17 WLAN_LED_N (out), 18 RF2G_OUTN1 (out), 19 RF2G_INN1 (in), 21 ANT_TRNB (out), 23 RF_PA_PE1 (out), 221 LDO_OUT4_V12D (out), 225 LDO_OUT3_V12D (in), 226 LDO_IN3_VX (in), 227 LDO_IN4_VX (in), 229 ADC_VREF (in), 230 ADC_V33A (in), 234 ADC_VREF025P (in), 235 ADC_V12D (in), 236 ADC_VREF025N (in), 237 ADC_V12A (in), 238 ADC_VREFN0 (in), 239 ADC_VREFP0 (in), 241 ADC_V12A (in), 243 ADC_V33A (in), 245 ADC_VREF (in), 246 ADC_VREF025N (in), 247 ADC_VREF025P (in), 249 ADC_V12D (in), 250 ADC_V12A (in), 251 ADC_VREFN1 (in), 253 ADC_VREFP1 (in), 254 ADC_V12A (in), 255 BASE_TRX_QN (io), 256 BASE_TRX_IN (in), 257 BASE_2_V12A (in), 258 BASE_TRX_QP (in), 259 PLL_X2 (io), 261 BASE_TRX_IP (in), 262 PLL_X1 (io), 263 LDO_OUT1_V12A (out), 265 PLL_XTAL_V33A (in), 266 LDO_IN12_VX (in), 269 LDO_OUT2_V12A (out), 270 BG_VBG (in), 273 BG_RES_12K (in), 274 BG_V33A (in), 275 PLL_VC_CAP (in), 277 PLL_DIV_V12A (in), 278 PLL_CP_V33A (in), 279 RF_RF_V33A (in), 280 PLL_PRE_V12A (in), 281 VCO_VCO_V12A (in), 282 RF_IF_V12A (in), 283 VCO_LO_V12A (in), 284 BASE_1_V12A (in)
part B pins: 20 RXD2 (in), 24 DTR_N (out), 25 RTS_N (out), 27 TXD2 (out), 28 DCD_N (in), 30 DSR_N (in), 31 TXD (out), 33 CTS_N (in), 34 RIN (in), 36 RXD (in), 37 UPHY_VRES (io), 38 UPHY_VBUS (io), 40 UPHY_PADM (io), 41 UPHY_PADP (io), 42 UPHY_ID (io), 115 SPI_DOUT (out), 116 PORST_N (in), 117 SPI_DIN (in), 119 I2C_SD (io), 120 SPI_CLK (out), 121 SPI_EN (out), 122 GPIO0 (io), 124 I2C_SCLK (out), 125 JTAG_TDO (out), 126 JTAG_TDI (in), 127 MD30 (io), 129 JTAG_TMS (in), 130 JTAG_TRST_N (in), 131 MD27 (io), 132 JTAG_TCLK (in), 135 MD23 (io), 136 MD31 (io), 137 MD28 (io), 138 MD24 (io), 139 MD29 (io), 140 MD25 (io), 141 MD21 (io), 142 MD26 (io), 143 MD22 (io), 146 MD18 (io), 147 MD19 (io), 148 SDRAM_CS_N (out), 149 SDRAM_RAS_N (out), 150 MD17 (io), 151 MD20 (io), 153 SDRAM_CLK (out), 155 MD16 (io), 156 MA16 (io), 157 MA17 (io), 158 MA18 (io), 159 MA19 (io), 160 MA13 (io), 161 MA14 (io), 162 MA15 (io), 164 MA12 (io), 165 MA11 (io), 168 MA10 (io), 169 MA9 (io), 170 MA8 (io), 172 MA7 (io), 173 MA6 (io), 174 MA5 (io), 175 MA4 (io), 176 MA3 (io), 177 MA2 (io), 178 MA1 (io), 180 MA0 (io), 181 MD15 (io), 182 MD13 (io), 183 MD12 (io), 184 MD14 (io), 186 MD10 (io), 188 MD11 (io), 189 MD9 (io), 190 MD7 (io), 191 MD8 (io), 192 MD6 (io), 193 MD4 (io), 195 MD5 (io), 196 MD3 (io), 197 MD0 (io), 198 MA20 (io), 199 MD2 (io), 200 MD1 (io), 201 MA21 (io), 205 WE_N (out), 207 MA22 (io), 208 SRAM_CS_N (out), 210 FLASH_CS_N (out), 213 OE_N (out)
part C pins: 44 GE_RXCLK (in), 46 GE_RXDV (in), 48 GE_RXD0 (in), 49 GE_RXD1 (in), 50 GE_RXD3 (in), 52 GE_RXD2 (in), 55 GE_TXD0 (out), 57 GE_TXCLK (out), 59 MDIO (io), 60 GE_TXEN (out), 62 GE_TXD2 (out), 65 GE_TXD1 (out), 66 MDC (out), 68 GE_TXD3 (out), 69 EPHY_REF_RES (io), 75 EPHY_RXP_p0 (in), 77 EPHY_TXP_p1 (out), 78 EPHY_TXN_p0 (out), 79 EPHY_RXN_p0 (in), 82 EPHY_TXN_p1 (out), 83 EPHY_TXP_p0 (out), 85 EPHY_RXN_p1 (in), 86 EPHY_RXP_p1 (in), 90 EPHY_RXP_p2 (in), 91 EPHY_RXN_p2 (in), 94 EPHY_TXN_p2 (out), 96 EPHY_TXP_p2 (out), 97 EPHY_TXP_p3 (out), 98 EPHY_TXN_p3 (out), 101 EPHY_RXP_p3 (in), 102 EPHY_RXN_p3 (in), 103 EPHY_RXN_p4 (in), 104 EPHY_RXP_p4 (in), 106 EPHY_TXN_p4 (out), 107 EPHY_TXP_p4 (out), 109 EPHY_LED0_N (out), 110 EPHY_LED1_N (out), 111 EPHY_LED2_N (out), 113 EPHY_LED3_N (out), 114 EPHY_LED4_N (out)
part D pins: 22 SOC_CO_V12D (in), 26 SOC_IO_V33D (in), 29 SOC_IO_V33D (in), 32 SOC_CO_V12D (in), 39 UPHY_VDDA_V33A (in), 43 UPHY_VDDL_V12D (in), 45 RGMII_CO_V12D (in), 47 RGMII_IO_V33D (in), 53 RGMII_IO_V33D (in), 54 RGMII_IO_V33D (in), 56 RGMII_CO_V12D (in), 63 EPHY_V33A (in), 64 RGMII_IO_V33D (in), 74 EPHY_V33A (in), 87 EPHY_V33A (in), 93 EPHY_V33A (in), 100 EPHY_V33A (in), 105 EPHY_V33A (in), 112 SOC_CO_V12D (in), 118 SOC_IO_V33D (in), 123 SOC_CO_V12D (in), 128 SOC_IO_V33D (in), 133 SOC_IO_V33D (in), 134 SOC_IO_V33D (in), 145 SOC_IO_V33D (in), 154 SOC_CO_V12D (in), 163 SOC_CO_V12D (in), 166 SOC_IO_V33D (in), 171 SOC_CO_V12D (in), 179 SOC_CO_V12D (in), 185 SOC_IO_V33D (in), 187 SOC_CO_V12D (in), 194 SOC_CO_V12D (in), 202 BPLL_POC_V33D (in), 204 SOC_IO_V33D (in), 209 BPLL_AVDD_V12A (in), 211 BPLL_VDD_V12D (in), 218 BPLL_DVDDA_V12D (in), 220 SOC_IO_V33D (in), 222 SOC_CO_V12D (in), GND (in)

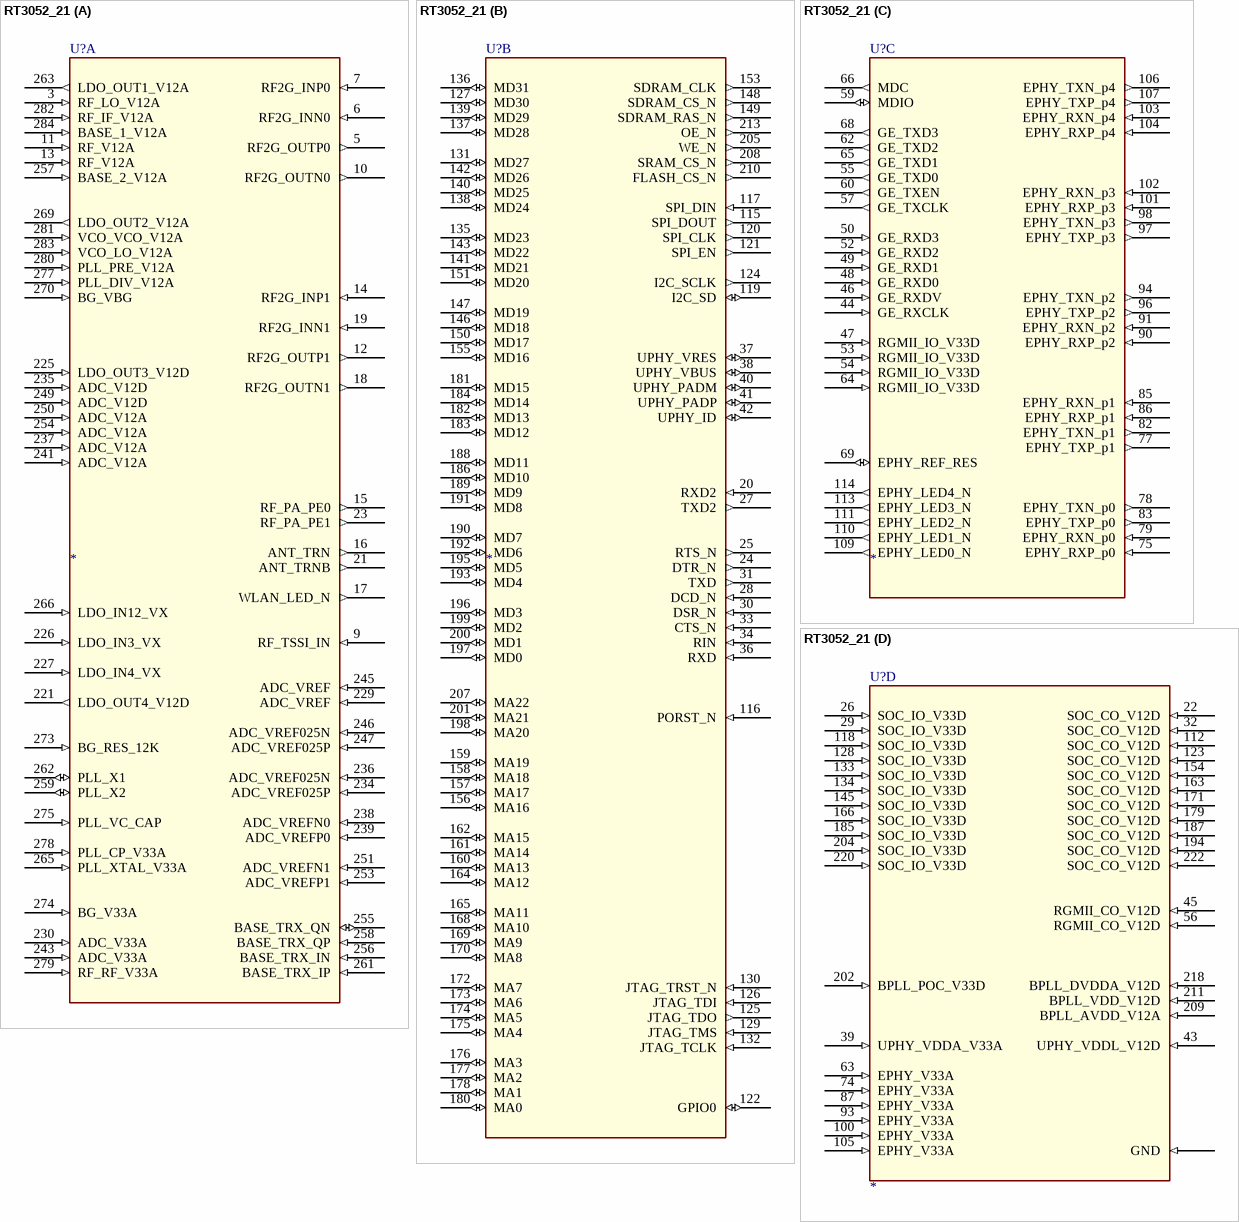
[diagram p29: symbol RT3052_21]